# Altium schematic symbol library HJ_AD_SchLib.SchLib: 600 symbols (part 1 of 2)
Pins are listed as number, name and electrical type; pins without a type are passive.

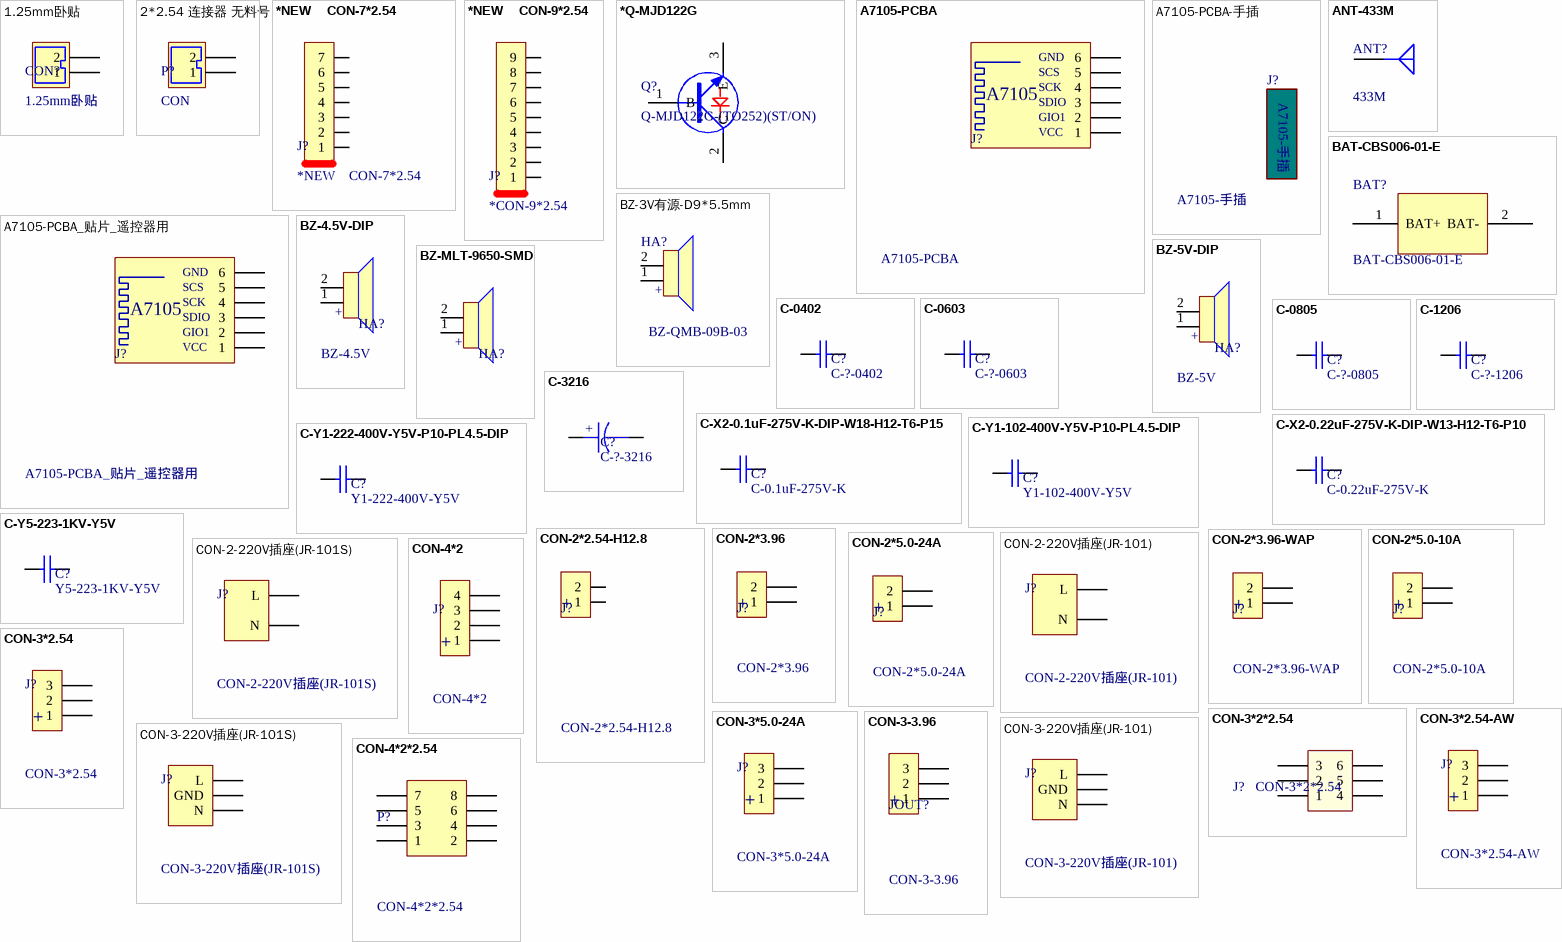
[diagram p0: symbols 1.25mm卧贴 to CON-4*2*2.54]

## 1.25mm卧贴
designator CON?
footprint 1.25MM-2P-SMT
pins: 1, 2

## 2*2.54 连接器 无料号
designator P?, comment CON
footprint CON-2*2.54
pins: 1, 2

## *NEW    CON-7*2.54
designator J?
CON-7*2.54
footprint *CON-7*2.54
pins: 1, 2, 3, 4, 5, 6, 7

## *NEW    CON-9*2.54
designator J?, comment *CON-9*2.54
CON-9*2.54
footprint *CON-9*2.54
pins: 1, 2, 3, 4, 5, 6, 7, 8, 9

## *Q-MJD122G
designator Q?, comment Q-MJD122G-(TO252)(ST/ON)
12142012: Q-MJD122G-(TO252)(ST/ON)
footprint TO252
pins: 1 B, 2 C, 3 E

## A7105-PCBA
designator J?
footprint 7105-SMD
pins: 1, 2, 3, 4, 5, 6
text: GND; SCS; SCK; A7105; SDIO; GIO1; VCC

## A7105-PCBA-手插
designator J?, comment A7105-手插
footprint A7105-PCBA-手插

## A7105-PCBA_贴片_遥控器用
designator J?
footprint 7105-2*6-SMD
pins: 1, 2, 3, 4, 5, 6
text: GND; SCS; SCK; A7105; SDIO; GIO1; VCC

## ANT-433M
designator ANT?, comment 433M
footprint ANT-433M
pins: 1

## BAT-CBS006-01-E
designator BAT?
footprint BAT-CBS006-01-E
pins: 1 BAT+, 2 BAT-

## BZ-3V有源-D9*5.5mm
designator HA?, comment BZ-QMB-09B-03
BZ-3V有源-D9*5.5mm
footprint FMQ-P4
pins: 1 + "RST", 2 + "RST"

## BZ-4.5V-DIP
designator HA?, comment BZ-4.5V
BE-4.5V-DIP
footprint FMQ-P1.9
pins: 1 + "RST", 2 + "RST"

## BZ-5V-DIP
designator HA?, comment BZ-5V
BE-5V-DIP
footprint FMQ-P7.5
pins: 1 + "RST", 2 + "RST"

## BZ-MLT-9650-SMD
designator HA?
footprint FMQ-9650-SMD
pins: 1 + "RST", 2 + "RST"

## C-0402
designator C?, comment C-?-0402
C-?-K-0402
footprint 0402C
pins: 1, 2

## C-0603
designator C?, comment C-?-0603
C-?-K-0603
footprint 0603C
pins: 1, 2

## C-0805
designator C?, comment C-?-0805
C-?-K-0805
footprint 0805C
pins: 1, 2

## C-1206
designator C?, comment C-?-1206
C-?-K-1206
footprint 1206C
pins: 1, 2

## C-3216
designator C?, comment C-?-3216
C-?-?V-3216
footprint 3216C
pins: 1, 2
text: +

## C-X2-0.1uF-275V-K-DIP-W18-H12-T6-P15
designator C?, comment C-0.1uF-275V-K
footprint C-X2-W18H12T6-P15
pins: 1, 2

## C-X2-0.22uF-275V-K-DIP-W13-H12-T6-P10
designator C?, comment C-0.22uF-275V-K
footprint C-X2-W13H12T6-P10
pins: 1, 2

## C-Y1-102-400V-Y5V-P10-PL4.5-DIP
designator C?, comment Y1-102-400V-Y5V
footprint C-Y1-P7.5-PL4.5-DIP
pins: 1, 2

## C-Y1-222-400V-Y5V-P10-PL4.5-DIP
designator C?, comment Y1-222-400V-Y5V
footprint C-Y1-P10-PL4.5-DIP
pins: 1, 2

## C-Y5-223-1KV-Y5V
designator C?, comment Y5-223-1KV-Y5V
P7.5
footprint C-P7.5
pins: 1, 2

## CON-2*2.54-H12.8
designator J?
footprint PH-2*2.54
pins: 1, 2
text: +

## CON-2*3.96
designator J?
J-3.96-2A
footprint CON-2*3.96
pins: 1, 2
text: +

## CON-2*3.96-WAP
designator J?
卧式
footprint CON-2*3.96-WAP
pins: 1, 2
text: +

## CON-2*5.0-10A
designator J?
J-5.0
footprint CON-2*5.0-WAP
pins: 1, 2
text: +

## CON-2*5.0-24A
designator J?
J-5.0
footprint CON-2*5.0
pins: 1, 2
text: +

## CON-2-220V插座(JR-101)
designator J?
footprint CON-2-220V插座(JR-101)
pins: 1 L, 2 N

## CON-2-220V插座(JR-101S)
designator J?
footprint CON-2-220V插座(JR-101S)
pins: 1 L, 2 N

## CON-3*2*2.54
designator J?
DIP
footprint PH-3*2*2.54 (Footprint not found)
pins: 1, 2, 3, 4, 5, 6

## CON-3*2.54
designator J?
footprint PH-3*2.54 (Footprint not found)
pins: 1, 2, 3
text: +

## CON-3*2.54-AW
designator J?
DIP(卧式弯针)
footprint PH-3*2.54-AW (Footprint not found)
pins: 1, 2, 3
text: +

## CON-3*5.0-24A
designator J?
J-5.0
footprint CON-3*5.0
pins: 1, 2, 3
text: +

## CON-3-3.96
designator JOUT?
footprint CON-3*3.96
pins: 1, 2, 3
text: +

## CON-3-220V插座(JR-101)
designator J?
footprint CON-3-220V插座(JR-101)
pins: 1 L, 2 N, 3 GND

## CON-3-220V插座(JR-101S)
designator J?
footprint CON-3-220V插座(JR-101S)
pins: 1 L, 2 N, 3 GND

## CON-4*2
designator J?
footprint PH-4*2.0
pins: 1, 2, 3, 4
text: +

## CON-4*2*2.54
designator P?
footprint CON-4*2*2.54 (Footprint not found)
pins: 1, 2, 3, 4, 5, 6, 7, 8

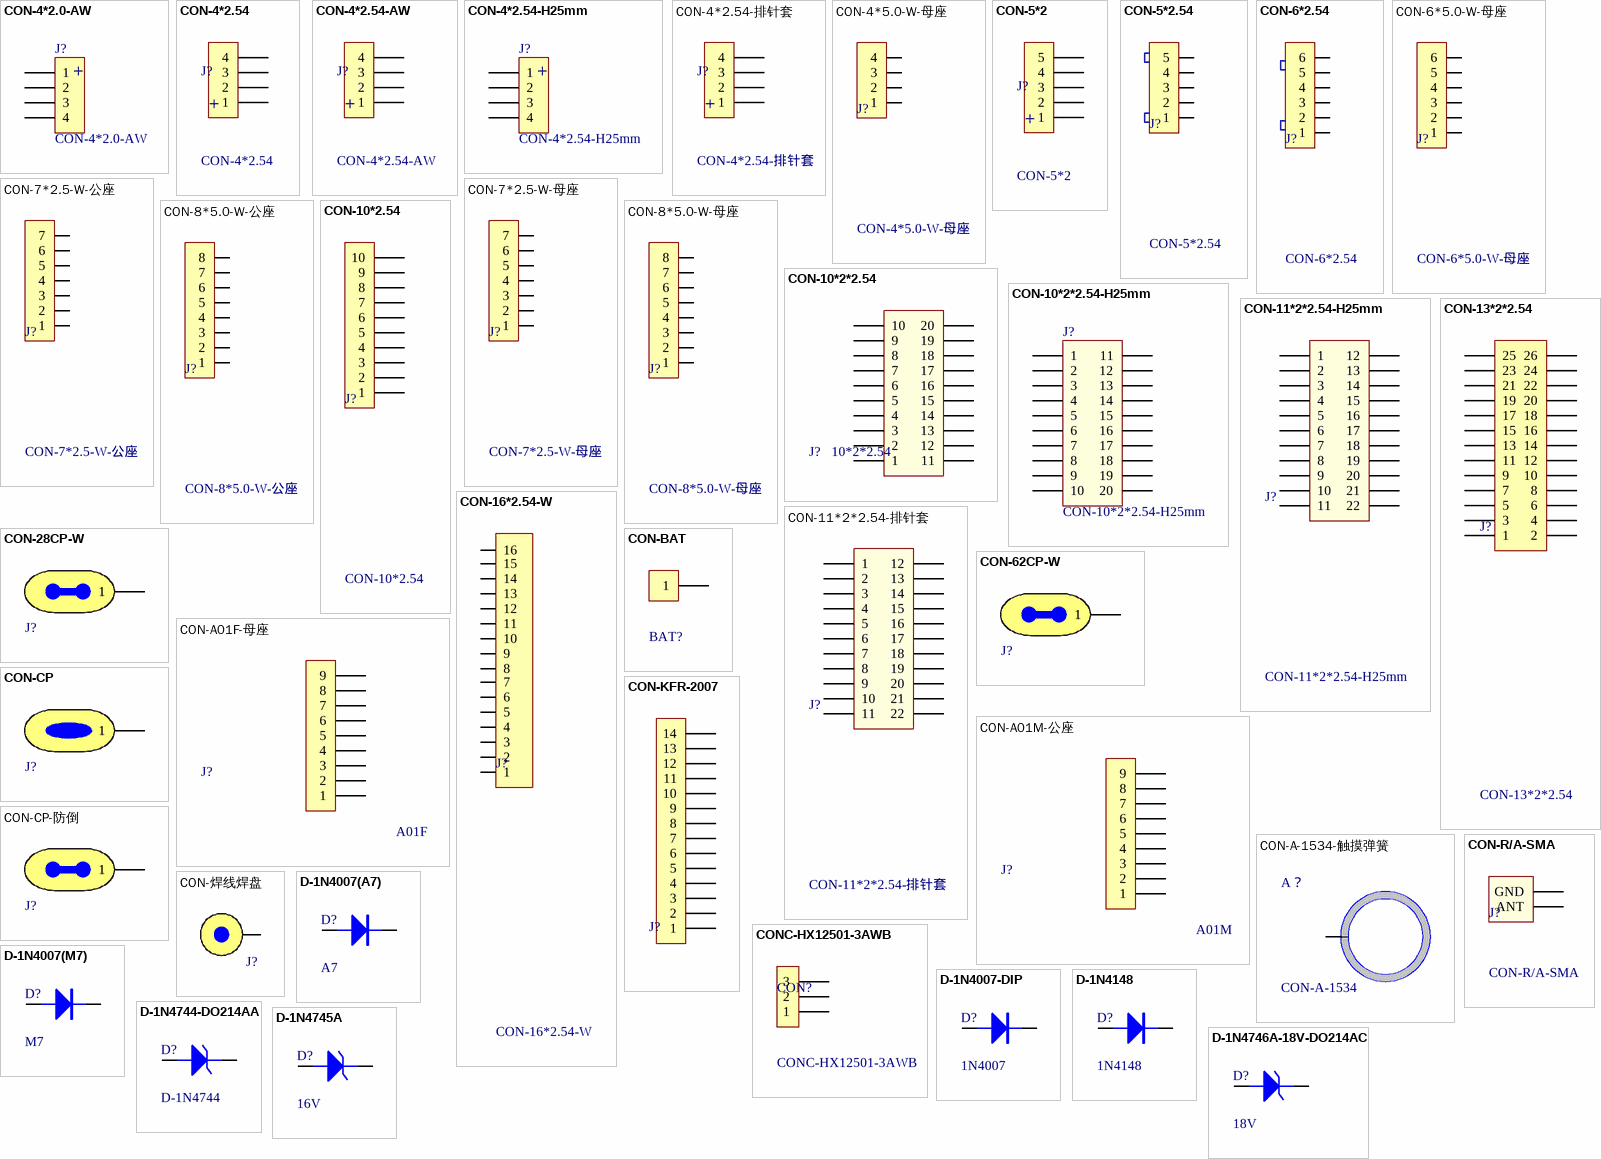
[diagram p1: symbols CON-4*2.0-AW to D-1N4746A-18V-DO214AC]

## CON-4*2.0-AW
designator J?
footprint PH-4*2.0-AW
pins: 1, 2, 3, 4
text: +

## CON-4*2.54
designator J?
footprint PH-4*2.54
pins: 1, 2, 3, 4
text: +

## CON-4*2.54-AW
designator J?
DIP(卧式弯针)
footprint PH-4*2.54-AW (Footprint not found)
pins: 1, 2, 3, 4
text: +

## CON-4*2.54-H25mm
designator J?
footprint PH-4*2.54-H25mm
pins: 1, 2, 3, 4
text: +

## CON-4*2.54-排针套
designator J?
footprint PH-4*2.54-排针套
pins: 1, 2, 3, 4
text: +

## CON-4*5.0-W-母座
designator J?
DIP卧式
footprint CON-4*5.0-W-母座
pins: 1, 2, 3, 4

## CON-5*2
designator J?
footprint PH-5*2.0 (Footprint not found)
pins: 1, 2, 3, 4, 5
text: +

## CON-5*2.54
designator J?
footprint CON-5*2.54
pins: 1, 2, 3, 4, 5

## CON-6*2.54
designator J?
footprint PH-6*2.54
pins: 1, 2, 3, 4, 5, 6

## CON-6*5.0-W-母座
designator J?
DIP卧式
footprint CON-6*5.0-W-母座
pins: 1, 2, 3, 4, 5, 6

## CON-7*2.5-W-公座
designator J?
DIP卧式
footprint CON-7*2.5-W-公座
pins: 1, 2, 3, 4, 5, 6, 7

## CON-7*2.5-W-母座
designator J?
DIP卧式
footprint CON-7*2.5-AW-母座
pins: 1, 2, 3, 4, 5, 6, 7

## CON-8*5.0-W-公座
designator J?
DIP卧式
footprint CON-8*5.0-W-公座
pins: 1, 2, 3, 4, 5, 6, 7, 8

## CON-8*5.0-W-母座
designator J?
DIP卧式
footprint CON-8*5.0-W-母座
pins: 1, 2, 3, 4, 5, 6, 7, 8

## CON-10*2*2.54
designator J?, comment 10*2*2.54
DIP
footprint PH-10*2*2.54
pins: 1, 2, 3, 4, 5, 6, 7, 8, 9, 10, 11, 12, 13, 14, 15, 16, 17, 18, 19, 20

## CON-10*2*2.54-H25mm
designator J?
footprint PH-11*2*2.54
pins: 1, 2, 3, 4, 5, 6, 7, 8, 9, 10, 11, 12, 13, 14, 15, 16, 17, 18, 19, 20

## CON-10*2.54
designator J?
footprint CON-10*2.54 (Footprint not found)
pins: 1, 2, 3, 4, 5, 6, 7, 8, 9, 10

## CON-11*2*2.54-H25mm
designator J?
footprint PH-11*2*2.54
pins: 1, 2, 3, 4, 5, 6, 7, 8, 9, 10, 11, 12, 13, 14, 15, 16, 17, 18, 19, 20, 21, 22

## CON-11*2*2.54-排针套
designator J?
footprint PH-11*2*2.54-排针套
pins: 1, 2, 3, 4, 5, 6, 7, 8, 9, 10, 11, 12, 13, 14, 15, 16, 17, 18, 19, 20, 21, 22

## CON-13*2*2.54
designator J?
footprint LCD-SY26
pins: 1, 2, 3, 4, 5, 6, 7, 8, 9, 10, 11, 12, 13, 14, 15, 16, 17, 18, 19, 20, 21, 22, 23, 24, 25, 26

## CON-16*2.54-W
designator J?
footprint CON-16*2.54-W
pins: 1, 2, 3, 4, 5, 6, 7, 8, 9, 10, 11, 12, 13, 14, 15, 16

## CON-28CP-W
designator J?, comment J-插片-卧式  (value not drawn)
footprint CON-28CP-W (Footprint not found)
pins: 1

## CON-62CP-W
designator J?, comment J-插片-卧式  (value not drawn)
footprint CON-62CP-W
pins: 1

## CON-A01F-母座
designator J?, comment A01F
DIP-母座
footprint CON-A01F-母座 (Footprint not found)
pins: 1, 2, 3, 4, 5, 6, 7, 8, 9

## CON-A01M-公座
designator J?, comment A01M
DIP-公座
footprint CON-A01M-公座 (Footprint not found)
pins: 1, 2, 3, 4, 5, 6, 7, 8, 9

## CON-A-1534-触摸弹簧
designator A？, comment CON-A-1534
footprint CON-A-1534 (Footprint not found)
pins: 1

## CON-BAT
designator BAT?
footprint CON-CP-BAT
pins: 1

## CON-CP
designator J?, comment J-2.8*0.8mm-1A  (value not drawn)
footprint CON-CP
pins: 1

## CON-CP-防倒
designator J?, comment J-2.8*0.8mm-1A  (value not drawn)
footprint CON-CP-防倒 (Footprint not found)
pins: 1

## CON-KFR-2007
designator J?
footprint CON-KFR-20007
pins: 1, 2, 3, 4, 5, 6, 7, 8, 9, 10, 11, 12, 13, 14

## CON-R/A-SMA
designator J?
SMA
footprint CON-R/A-SMA
pins: 1 ANT, 2 GND

## CON-焊线焊盘
designator J?  (value not drawn)
footprint 焊线焊盘-孔移位
footprint 焊线焊盘
pins: 1

## CONC-HX12501-3AWB
designator CON?
53261/1.25卧贴
footprint CONC-HX12501-3AWB (53261/1.25卧贴)
pins: 1, 2, 3

## D-1N4007(A7)
designator D?, comment A7
footprint D-SOD123
pins: 1 A, 2 K

## D-1N4007(M7)
designator D?, comment M7
footprint D-DO214AC
pins: 1 A, 2 K

## D-1N4007-DIP
designator D?, comment 1N4007
footprint D-P10
pins: 1 A, 2 K

## D-1N4148
designator D?, comment 1N4148
footprint D-SOD80
pins: 1 A, 2 K

## D-1N4744-DO214AA
designator D?, comment D-1N4744
footprint D-DO214AA
pins: 1 A, 2 K

## D-1N4745A
designator D?, comment 16V
DO214AC
footprint D-DO214AC
pins: 1 A, 2 K

## D-1N4746A-18V-DO214AC
designator D?, comment 18V
DO214AC
footprint D-DO214AC
pins: 1 A, 2 K

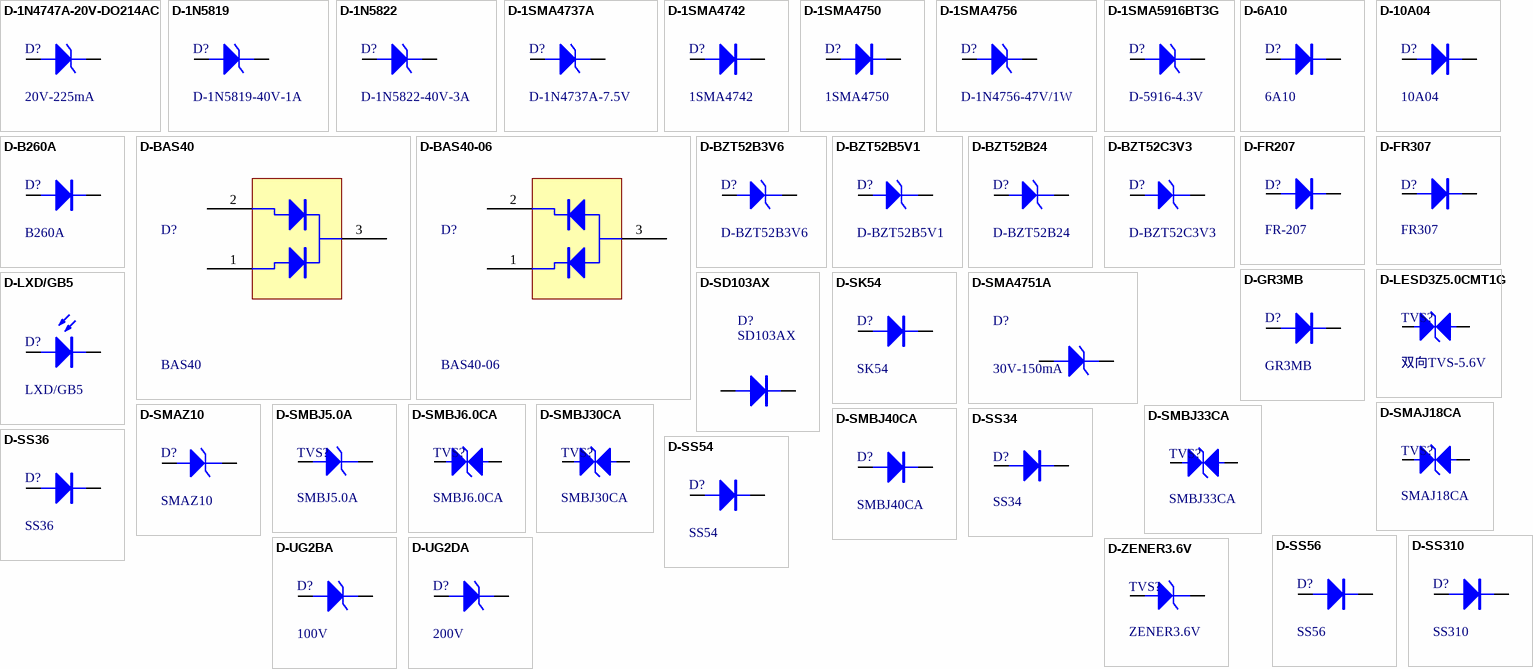
[diagram p2: symbols D-1N4747A-20V-DO214AC to D-ZENER3.6V]

## D-1N4747A-20V-DO214AC
designator D?, comment 20V-225mA
DO214AC
footprint D-DO214AC
pins: 1 A, 2 K

## D-1N5819
designator D?, comment D-1N5819-40V-1A
DO214AC
footprint D-DO214AC
pins: 1 A, 2 K

## D-1N5822
designator D?, comment D-1N5822-40V-3A
DO214AC
footprint D-DO214AC
pins: 1 A, 2 K

## D-1SMA4737A
designator D?, comment D-1N4737A-7.5V
footprint D-DO214AC
pins: 1 A, 2 K

## D-1SMA4742
designator D?, comment 1SMA4742
footprint D-DO214AC
pins: 1 A, 2 K

## D-1SMA4750
designator D?, comment 1SMA4750
footprint D-DO214AC
pins: 1 A, 2 K

## D-1SMA4756
designator D?, comment D-1N4756-47V/1W
DO214AC
footprint D-DO214AC
pins: 1 A, 2 K

## D-1SMA5916BT3G
designator D?, comment D-5916-4.3V
DO214AC
footprint D-DO214AC
pins: 1 A, 2 K

## D-6A10
designator D?, comment 6A10
D-6A10-DIP
footprint D-6A10-P17.78
pins: 1 A, 2 K

## D-10A04
designator D?, comment 10A04
D-10A04-DIP
footprint D-10A04-P17.78
pins: 1 A, 2 K

## D-B260A
designator D?, comment B260A
D-DO214AC
footprint D-DO214AC
pins: 1 A, 2 K

## D-BAS40
designator D?, comment BAS40
footprint SOT23-3
pins: 1, 2, 3

## D-BAS40-06
designator D?, comment BAS40-06
footprint SOT23-3
pins: 1, 2, 3

## D-BZT52B3V6
designator D?
SOD123
footprint D-SOD123
pins: 1 A, 2 K

## D-BZT52B5V1
designator D?
SOD123
footprint D-SOD123
pins: 1 A, 2 K

## D-BZT52B24
designator D?
SOD123
footprint D-SOD123
pins: 1 A, 2 K

## D-BZT52C3V3
designator D?
SOD123
footprint D-SOD123
pins: 1 A, 2 K

## D-FR207
designator D?, comment FR-207
D-FR207-DIP
footprint D-P12.7
pins: 1 A, 2 K

## D-FR307
designator D?, comment FR307
footprint D-DO201AD
pins: 1 A, 2 K

## D-GR3MB
designator D?, comment GR3MB
footprint D-DO214AA
pins: 1 A, 2 K

## D-LESD3Z5.0CMT1G
designator TVS?, comment 双向TVS-5.6V
SOD323
footprint D-SOD323
pins: 1 A, 2 K

## D-LXD/GB5
designator D?, comment LXD/GB5
footprint RL-P2.54
pins: 1 A, 2 K

## D-SD103AX
designator D?, comment SD103AX
SOD523
footprint D-SOD523
pins: 1 A, 2 K

## D-SK54
designator D?, comment SK54
footprint D-DO214AB
pins: 1 A, 2 K

## D-SMA4751A
designator D?, comment 30V-150mA
DO214AC
footprint D-DO214AC
pins: 1 A, 2 K

## D-SMAJ18CA
designator TVS?, comment SMAJ18CA
DO214AC
footprint D-DO214AC
pins: 1 A, 2 K

## D-SMAZ10
designator D?, comment SMAZ10
DO214AC
footprint D-DO214AC
pins: 1 A, 2 K

## D-SMBJ5.0A
designator TVS?, comment SMBJ5.0A
DO214AA
footprint D-DO214AA
pins: 1 A, 2 K

## D-SMBJ6.0CA
designator TVS?, comment SMBJ6.0CA
DO241AA
footprint D-DO214AA
pins: 1 A, 2 K

## D-SMBJ30CA
designator TVS?, comment SMBJ30CA
DO214AA
footprint D-DO214AA
pins: 1 A, 2 K

## D-SMBJ33CA
designator TVS?, comment SMBJ33CA
DO214AA
footprint D-DO214AA
pins: 1 A, 2 K

## D-SMBJ40CA
designator D?, comment SMBJ40CA
DO214AA
footprint D-DO214AA
pins: 1 A, 2 K

## D-SS34
designator D?, comment SS34
D-SS34-DO214AC
footprint D-DO214AC
pins: 1 A, 2 K

## D-SS36
designator D?, comment SS36
footprint D-DO214AC
pins: 1 A, 2 K

## D-SS54
designator D?, comment SS54
footprint D-DO214AC
pins: 1 A, 2 K

## D-SS56
designator D?, comment SS56
DO214AA
footprint D-DO214AA
pins: 1 A, 2 K

## D-SS310
designator D?, comment SS310
DO214AC
footprint D-DO214AC
pins: 1 A, 2 K

## D-UG2BA
designator D?, comment 100V
DO214AC
footprint D-DO214AC
pins: 1 A, 2 K

## D-UG2DA
designator D?, comment 200V
DO214AC
footprint D-DO214AC
pins: 1 A, 2 K

## D-ZENER3.6V
designator TVS?, comment ZENER3.6V
D-ZENER3.6V-SMD
footprint D-DO214AC
pins: 1 A, 2 K

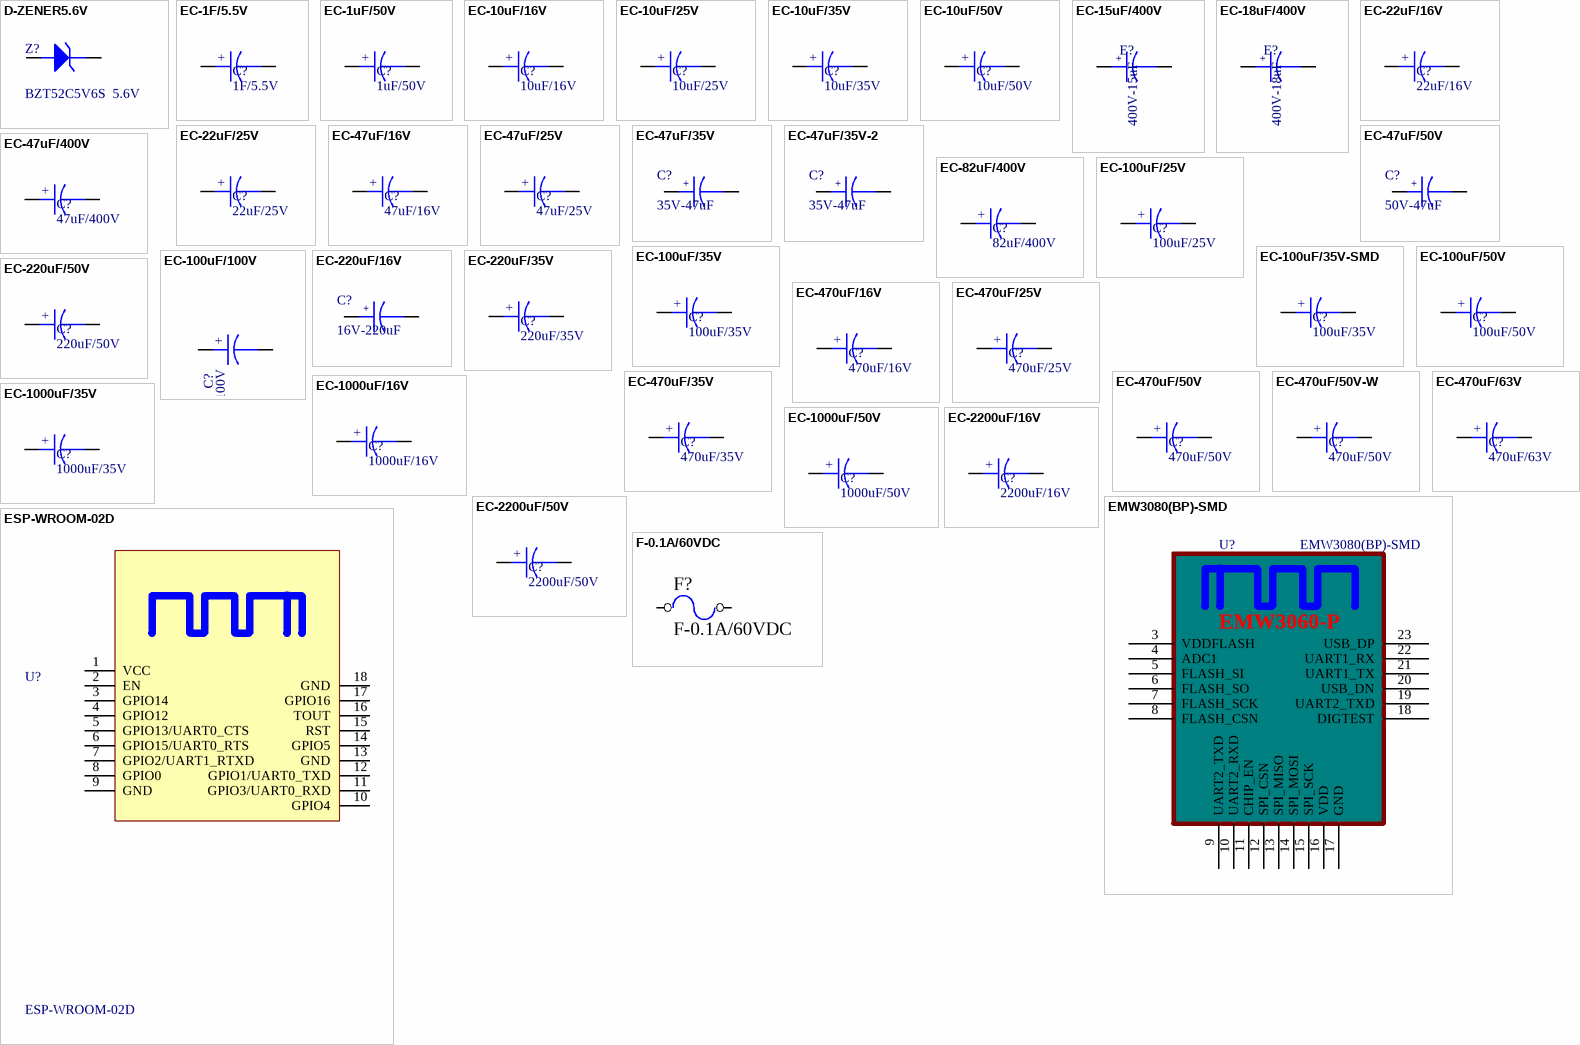
[diagram p3: symbols D-ZENER5.6V to F-0.1A/60VDC]

## D-ZENER5.6V
designator Z?, comment BZT52C5V6S  5.6V
D-BZT52C5V6S-SMD
footprint D-SOD323
pins: 1 A, 2 K

## EC-1F/5.5V
designator C?, comment 1F/5.5V
footprint EC-L17.5M9.5H18
pins: 1, 2
text: +

## EC-1uF/50V
designator C?, comment 1uF/50V
footprint EC-P2.0D5H11
pins: 1, 2
text: +

## EC-10uF/16V
designator C?, comment 10uF/16V
footprint EC-P2.0D5H11
pins: 1, 2
text: +

## EC-10uF/25V
designator C?, comment 10uF/25V
footprint EC-P2.0D5H11
pins: 1, 2
text: +

## EC-10uF/35V
designator C?, comment 10uF/35V
footprint EC-P2.0D5H11
pins: 1, 2
text: +

## EC-10uF/50V
designator C?, comment 10uF/50V
footprint EC-P2.0D5H11
pins: 1, 2
text: +

## EC-15uF/400V
designator E?, comment 400V-15uF
10*17-P5.0
footprint EC-P5D10H16
pins: 1, 2
text: +

## EC-18uF/400V
designator E?, comment 400V-18uF
10*20-P5.0
footprint EC-P5D10H20
footprint EC-P5D10H20-W
pins: 1, 2
text: +

## EC-22uF/16V
designator C?, comment 22uF/16V
footprint EC-P2.0D5H11
pins: 1, 2
text: +

## EC-22uF/25V
designator C?, comment 22uF/25V
footprint EC-P2.0D5H11
pins: 1, 2
text: +

## EC-47uF/16V
designator C?, comment 47uF/16V
footprint EC-P2.0D5H11
pins: 1, 2
text: +

## EC-47uF/25V
designator C?, comment 47uF/25V
footprint EC-6.3*6.3-SMD
footprint EC-P2.0D5H11
pins: 1, 2
text: +

## EC-47uF/35V
designator C?, comment 35V-47uF
5*11-P2.0
footprint EC-P2.0D5H11
pins: 1, 2
text: +

## EC-47uF/35V-2
designator C?, comment 35V-47uF
5*9-P2.0
footprint EC-P2.0D5H9
pins: 1, 2
text: +

## EC-47uF/50V
designator C?, comment 50V-47uF
6.3*11-P2.5
footprint EC-P2.5D6.3H11
pins: 1, 2
text: +

## EC-47uF/400V
designator C?, comment 47uF/400V
footprint EC-P7.5D16H26-W
pins: 1, 2
text: +

## EC-82uF/400V
designator C?, comment 82uF/400V
footprint EC-P7.5D18H25-W
pins: 1, 2
text: +

## EC-100uF/25V
designator C?, comment 100uF/25V
footprint EC-P2.5D5H7
pins: 1, 2
text: +

## EC-100uF/35V
designator C?, comment 100uF/35V
footprint EC-P2.54D6.5H12
pins: 1, 2
text: +

## EC-100uF/35V-SMD
designator C?, comment 100uF/35V
SMD
footprint EC-6.3*6.3-SMD
pins: 1, 2
text: +

## EC-100uF/50V
designator C?, comment 100uF/50V
footprint EC-P5D8H16
pins: 1, 2
text: +

## EC-100uF/100V
designator C?, comment 100uF/100V
footprint EC-P5D10H16
pins: 1, 2
text: +

## EC-220uF/16V
designator C?, comment 16V-220uF
6.3*11-P2.5
footprint EC-P2.5D6.3H11
pins: 1, 2
text: +

## EC-220uF/35V
designator C?, comment 220uF/35V
footprint EC-P5D8H16
pins: 1, 2
text: +

## EC-220uF/50V
designator C?, comment 220uF/50V
footprint EC-P5D10H16
pins: 1, 2
text: +

## EC-470uF/16V
designator C?, comment 470uF/16V
footprint EC-P2.5D8H13
pins: 1, 2
text: +

## EC-470uF/25V
designator C?, comment 470uF/25V
footprint EC-P3.5D8H12
pins: 1, 2
text: +

## EC-470uF/35V
designator C?, comment 470uF/35V
footprint EC-P5D10H16
pins: 1, 2
text: +

## EC-470uF/50V
designator C?, comment 470uF/50V
footprint EC-P5D10H20
pins: 1, 2
text: +

## EC-470uF/50V-W
designator C?, comment 470uF/50V
footprint EC-P5D10H18-W
pins: 1, 2
text: +

## EC-470uF/63V
designator C?, comment 470uF/63V
footprint EC-P5D13H20
pins: 1, 2
text: +

## EC-1000uF/16V
designator C?, comment 1000uF/16V
footprint EC-P5D10H16
pins: 1, 2
text: +

## EC-1000uF/35V
designator C?, comment 1000uF/35V
footprint EC-P5D13H20
pins: 1, 2
text: +

## EC-1000uF/50V
designator C?, comment 1000uF/50V
footprint EC-P5D13H26
pins: 1, 2
text: +

## EC-2200uF/16V
designator C?, comment 2200uF/16V
footprint EC-P5D10H20
pins: 1, 2
text: +

## EC-2200uF/50V
designator C?, comment 2200uF/50V
footprint EC-P7.5D16H30-W
pins: 1, 2
text: +

## EMW3080(BP)-SMD
designator U?
footprint EMW3060-WIFI MODULE
footprint EMW3080(BP)-WIFI MODULE
pins: 3 VDDFLASH, 4 ADC1, 5 FLASH_SI, 6 FLASH_SO, 7 FLASH_SCK, 8 FLASH_CSN, 9 UART2_TXD, 10 UART2_RXD, 11 CHIP_EN, 12 SPI_CSN, 13 SPI_MISO, 14 SPI_MOSI, 15 SPI_SCK, 16 VDD, 17 GND, 18 DIGTEST, 19 UART2_TXD, 20 USB_DN, 21 UART1_TX, 22 UART1_RX, 23 USB_DP
text: EMW3060-P

## ESP-WROOM-02D
designator U?
footprint ESP-WROOM-02D (Footprint not found)
pins: 1 VCC, 2 EN, 3 GPIO14, 4 GPIO12, 5 GPIO13/UART0_CTS, 6 GPIO15/UART0_RTS, 7 GPIO2/UART1_RTXD, 8 GPIO0, 9 GND, 10 GPIO4, 11 GPIO3/UART0_RXD, 12 GPIO1/UART0_TXD, 13 GND, 14 GPIO5, 15 RST, 16 TOUT, 17 GPIO16, 18 GND

## F-0.1A/60VDC
designator F?
SMD1206
footprint 1206R
pins: 1, 2

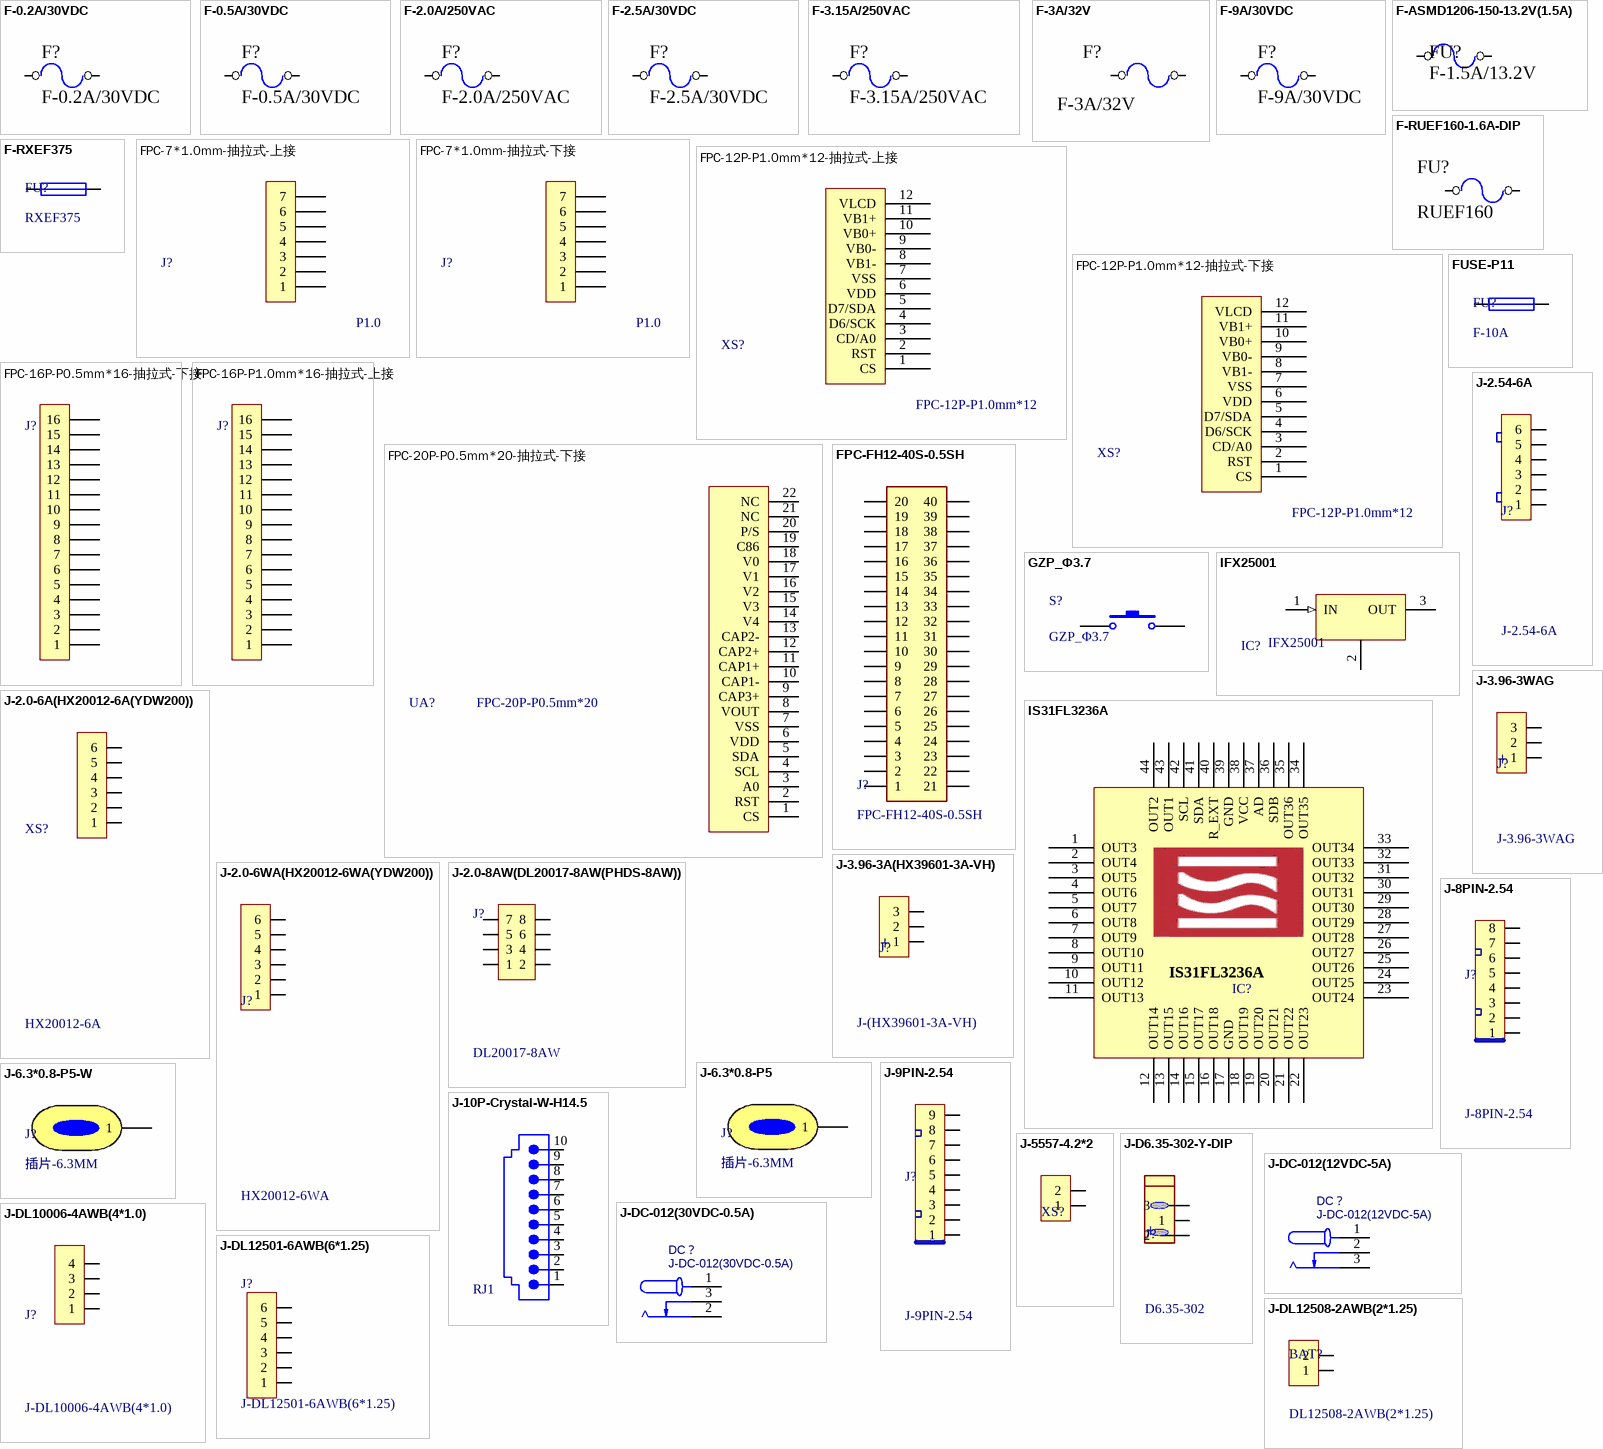
[diagram p4: symbols F-0.2A/30VDC to J-DL12508-2AWB(2*1.25)]

## F-0.2A/30VDC
designator F?
SMD1206
footprint 1206R
pins: 1, 2

## F-0.5A/30VDC
designator F?
footprint FUSE-A30-050
pins: 1, 2

## F-2.0A/250VAC
designator F?
footprint FUSE-P5D8.5H8
pins: 1, 2

## F-2.5A/30VDC
designator F?
footprint FUSE-A30-250
pins: 1, 2

## F-3.15A/250VAC
designator F?
footprint FUSE-P5D8.5H8
pins: 1, 2

## F-3A/32V
designator F?
footprint 1206R
pins: 1, 2

## F-9A/30VDC
designator F?
P10.27
footprint FUSE-Z-P10.27
pins: 1, 2

## F-ASMD1206-150-13.2V(1.5A)
designator FU?, comment F-1.5A/13.2V
footprint 1206F
pins: 1, 2

## F-RUEF160-1.6A-DIP
designator FU?, comment RUEF160
footprint 自恢复保险丝0.5A-卧式
footprint 自恢复保险丝0.5A-立式
pins: 1, 2

## F-RXEF375
designator FU?, comment RXEF375
FUSE-P11
footprint FUSE-P10
pins: 1, 2

## FPC-7*1.0mm-抽拉式-上接
designator J?, comment P1.0
抽拉式-上接-SMD
footprint FPC-P1.0*7-抽拉式-上接
pins: 1, 2, 3, 4, 5, 6, 7

## FPC-7*1.0mm-抽拉式-下接
designator J?, comment P1.0
抽拉式-下接-SMD
footprint FPC-P1.0*7-抽拉式-下接
pins: 1, 2, 3, 4, 5, 6, 7

## FPC-12P-P1.0mm*12-抽拉式-上接
designator XS?, comment FPC-12P-P1.0mm*12
footprint FPC-12P-P1.0mm*12-抽拉式-下接
pins: 1 CS, 2 RST, 3 CD/A0, 4 D6/SCK, 5 D7/SDA, 6 VDD, 7 VSS, 8 VB1-, 9 VB0-, 10 VB0+, 11 VB1+, 12 VLCD

## FPC-12P-P1.0mm*12-抽拉式-下接
designator XS?, comment FPC-12P-P1.0mm*12
footprint FPC-12P-P1.0mm*12-抽拉式-下接
pins: 1 CS, 2 RST, 3 CD/A0, 4 D6/SCK, 5 D7/SDA, 6 VDD, 7 VSS, 8 VB1-, 9 VB0-, 10 VB0+, 11 VB1+, 12 VLCD

## FPC-16P-P0.5mm*16-抽拉式-下接
designator J?, comment FPC-16P-P0.5mm*16  (value not drawn)
footprint FPC-P0.5*16
pins: 1, 2, 3, 4, 5, 6, 7, 8, 9, 10, 11, 12, 13, 14, 15, 16

## FPC-16P-P1.0mm*16-抽拉式-上接
designator J?, comment FPC-16P-P1.0mm*16  (value not drawn)
footprint FPC-16P-P1.0mm*16-抽拉式-上接
pins: 1, 2, 3, 4, 5, 6, 7, 8, 9, 10, 11, 12, 13, 14, 15, 16

## FPC-20P-P0.5mm*20-抽拉式-下接
designator UA?, comment FPC-20P-P0.5mm*20
footprint FPC-P0.5*20
pins: 1 CS, 2 RST, 3 A0, 4 SCL, 5 SDA, 6 VDD, 7 VSS, 8 VOUT, 9 CAP3+, 10 CAP1-, 11 CAP1+, 12 CAP2+, 13 CAP2-, 14 V4, 15 V3, 16 V2, 17 V1, 18 V0, 19 C86, 20 P/S, 21 NC, 22 NC

## FPC-FH12-40S-0.5SH
designator J?
footprint FPC-P0.5*40
pins: 1, 2, 3, 4, 5, 6, 7, 8, 9, 10, 11, 12, 13, 14, 15, 16, 17, 18, 19, 20, 21, 22, 23, 24, 25, 26, 27, 28, 29, 30, 31, 32, 33, 34, 35, 36, 37, 38, 39, 40

## FUSE-P11
designator FU?, comment F-10A
FUSE-P11
footprint FUSE-Z-P10.27
pins: 1, 2

## GZP_Φ3.7
designator S?
footprint XGZP (Footprint not found)
pins: 1, 2

## IFX25001
designator IC?
footprint T0-263-7812
pins: 1 IN (in), 2 GND, 3 OUT (power)

## IS31FL3236A
designator IC?  (value not drawn)
footprint F-44
pins: 1 OUT3 (power), 2 OUT4, 3 OUT5, 4 OUT6, 5 OUT7, 6 OUT8, 7 OUT9, 8 OUT10, 9 OUT11, 10 OUT12, 11 OUT13, 12 OUT14, 13 OUT15, 14 OUT16, 15 OUT17, 16 OUT18, 17 GND, 18 OUT19, 19 OUT20, 20 OUT21, 21 OUT22, 22 OUT23, 23 OUT24, 24 OUT25, 25 OUT26, 26 OUT27, 27 OUT28, 28 OUT29, 29 OUT30, 30 OUT31, 31 OUT32, 32 OUT33, 33 OUT34, 34 OUT35, 35 OUT36, 36 SDB, 37 AD, 38 VCC, 39 GND, 40 R_EXT, 41 SDA, 42 SCL, 43 OUT1, 44 OUT2

## J-2.0-6A(HX20012-6A(YDW200))
designator XS?, comment HX20012-6A
footprint HX20012-6A(YDW200)
pins: 1, 2, 3, 4, 5, 6

## J-2.0-6WA(HX20012-6WA(YDW200))
designator J?, comment HX20012-6WA
footprint HX20012-6WA(YDAW200)
pins: 1, 2, 3, 4, 5, 6

## J-2.0-8AW(DL20017-8AW(PHDS-8AW))
designator J?, comment DL20017-8AW
footprint J-DL20017-8AW(2*4*2.0)
pins: 1, 2, 3, 4, 5, 6, 7, 8

## J-2.54-6A
designator J?
footprint CON-6*2.54
pins: 1, 2, 3, 4, 5, 6

## J-3.96-3A(HX39601-3A-VH)
designator J?, comment J-(HX39601-3A-VH)
footprint HX39601-3A(VH)
pins: 1, 2, 3
text: +

## J-3.96-3WAG
designator J?
footprint CON-3*3.96-W
pins: 1, 2, 3
text: +

## J-6.3*0.8-P5
designator J?, comment 插片-6.3MM
187插片-6.3MM
footprint 6.3mm插片
pins: 1

## J-6.3*0.8-P5-W
designator J?, comment 插片-6.3MM
187插片-6.3MM-卧式
footprint 6.3mm插片-W (187卧式)
pins: 1

## J-8PIN-2.54
designator J?
footprint CON-8*2.54
pins: 1, 2, 3, 4, 5, 6, 7, 8

## J-9PIN-2.54
designator J?
footprint CON-9*2.54-WL
pins: 1, 2, 3, 4, 5, 6, 7, 8, 9

## J-10P-Crystal-W-H14.5
designator RJ1, comment 10P-Crystal-W-H14.5  (value not drawn)
footprint RJ11-10P10C-W
pins: 1, 2, 3, 4, 5, 6, 7, 8, 9, 10

## J-5557-4.2*2
designator XS?
footprint SOCKET-P4.2-W
pins: 1, 2

## J-D6.35-302-Y-DIP
designator J?, comment D6.35-302
footprint J-D6.35-302-Y-DIP
pins: 1, 2, 3
text: +

## J-DC-012(12VDC-5A)
designator DC？
footprint J-DC-012(12VDC-5A)-9*11*14
pins: 1, 2, 3

## J-DC-012(30VDC-0.5A)
designator DC？
footprint J-DC-012(30VDC-0.5A)-9*11*13.4
pins: 1, 2, 3

## J-DL10006-4AWB(4*1.0)
designator J?
footprint J-DL10006-4AWB(4*1.0)
pins: 1, 2, 3, 4

## J-DL12501-6AWB(6*1.25)
designator J?
footprint J-DL12501-6AWB(6*1.25)
pins: 1, 2, 3, 4, 5, 6

## J-DL12508-2AWB(2*1.25)
designator BAT?, comment DL12508-2AWB(2*1.25)
footprint J-DL12508-2AWB(2*1.25)
pins: 1, 2

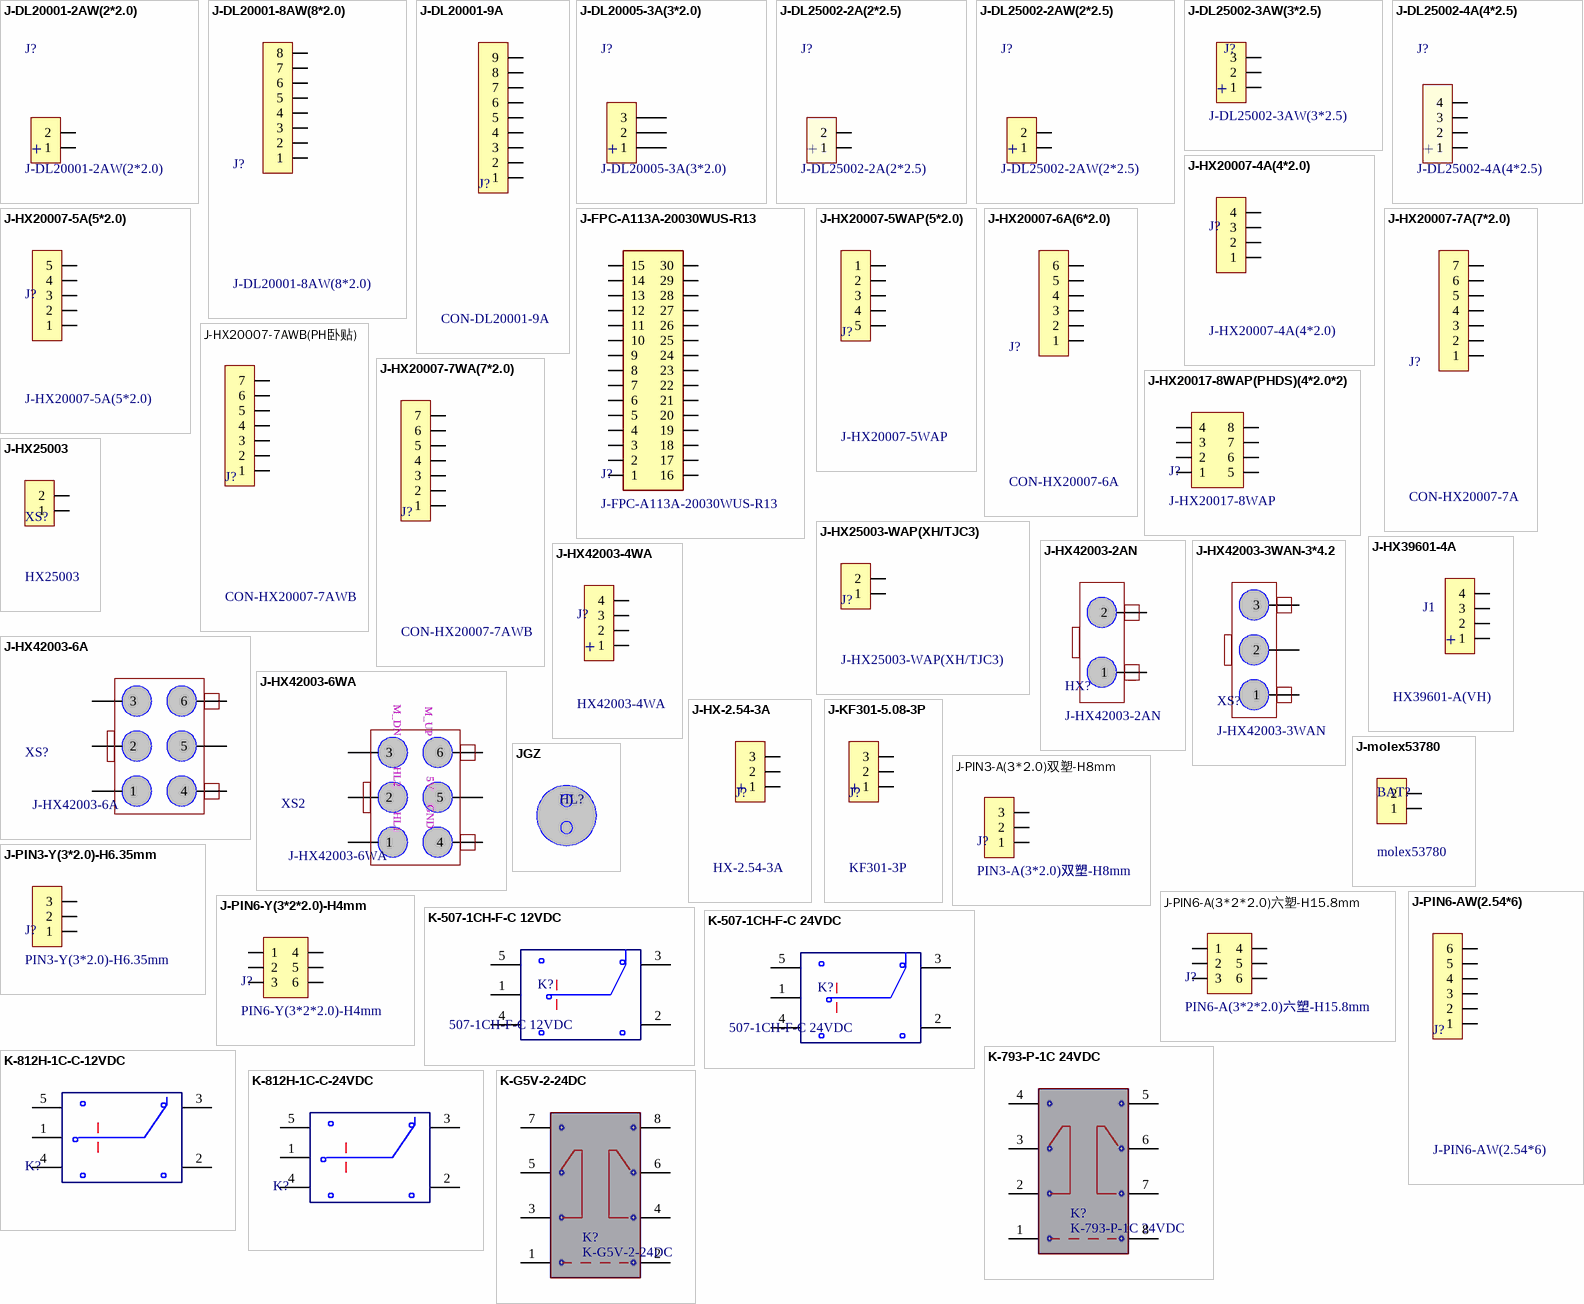
[diagram p5: symbols J-DL20001-2AW(2*2.0) to K-G5V-2-24DC]

## J-DL20001-2AW(2*2.0)
designator J?
footprint J-DL20001-2AW(2*2.0)
pins: 1, 2
text: +

## J-DL20001-8AW(8*2.0)
designator J?
footprint J-DL20001-8AW(8*2.0)
pins: 1, 2, 3, 4, 5, 6, 7, 8

## J-DL20001-9A
designator J?, comment CON-DL20001-9A
footprint J-DL20001-9A(9*2.0) (Footprint not found)
pins: 1, 2, 3, 4, 5, 6, 7, 8, 9

## J-DL20005-3A(3*2.0)
designator J?
footprint J-DL20005-3A(3*2.0)
pins: 1, 2, 3
text: +

## J-DL25002-2A(2*2.5)
designator J?
footprint J-DL25002-2A(2*2.5)
pins: 1, 2
text: +

## J-DL25002-2AW(2*2.5)
designator J?
footprint J-DL25002-2AW(2*2.5)
pins: 1, 2
text: +

## J-DL25002-3AW(3*2.5)
designator J?
CompNAME: 2P直插卧式插座; $MaterialClass: Component; $MaterialID: 12032086; CompCLASSIFICATION: ;电子元器件; Comp_Spec: J-DL25002-2AW-P2.54; CompID: 12032086
footprint J-DL25002-3AW(3*2.5)
pins: 1, 2, 3
text: +

## J-DL25002-4A(4*2.5)
designator J?
footprint J-DL25002-4A(4*2.5)
pins: 1, 2, 3, 4
text: +

## J-FPC-A113A-20030WUS-R13
designator J?
footprint J-FPC-30P-W (Footprint not found)
pins: 1, 2, 3, 4, 5, 6, 7, 8, 9, 10, 11, 12, 13, 14, 15, 16, 17, 18, 19, 20, 21, 22, 23, 24, 25, 26, 27, 28, 29, 30

## J-HX20007-4A(4*2.0)
designator J?
footprint J-HX20007-4A(4*2.0)
pins: 1, 2, 3, 4

## J-HX20007-5A(5*2.0)
designator J?
footprint J-HX20007-5A(5*2.0) (Footprint not found)
pins: 1, 2, 3, 4, 5

## J-HX20007-5WAP(5*2.0)
designator J?, comment J-HX20007-5WAP
footprint J-HX20007-5WAP(5*2.0)
pins: 1, 2, 3, 4, 5

## J-HX20007-6A(6*2.0)
designator J?, comment CON-HX20007-6A
footprint J-HX20007-6A(6*2.0)
pins: 1, 2, 3, 4, 5, 6

## J-HX20007-7A(7*2.0)
designator J?, comment CON-HX20007-7A
footprint J-HX20007-7A(7*2.0)
pins: 1, 2, 3, 4, 5, 6, 7

## J-HX20007-7AWB(PH卧贴)
designator J?, comment CON-HX20007-7AWB
footprint SOT223
pins: 1, 2, 3, 4, 5, 6, 7

## J-HX20007-7WA(7*2.0)
designator J?, comment CON-HX20007-7AWB
DIP-7*2.0卧式
footprint J-HX20007-7WA(7*2.0)
pins: 1, 2, 3, 4, 5, 6, 7

## J-HX20017-8WAP(PHDS)(4*2.0*2)
designator J?, comment J-HX20017-8WAP
footprint HX20017-8WAP
pins: 1, 2, 3, 4, 5, 6, 7, 8

## J-HX25003
designator XS?, comment HX25003
footprint CON-2*2.54
pins: 1, 2

## J-HX25003-WAP(XH/TJC3)
designator J?
footprint CON-2*2.54-WS
pins: 1, 2

## J-HX39601-4A
designator J1, comment HX39601-A(VH)
footprint HX39601-A(VH)
pins: 1, 2, 3, 4
text: +

## J-HX42003-2AN
designator HX?
footprint HX42003-2AN
pins: 1, 2

## J-HX42003-3WAN-3*4.2
designator XS?, comment J-HX42003-3WAN
footprint HX42003-3WAN
pins: 1, 2, 3

## J-HX42003-4WA
designator J?, comment HX42003-4WA
footprint HX42003-4WA
pins: 1, 2, 3, 4
text: +

## J-HX42003-6A
designator XS?
2037008: J-HX42003-6WAG-3*4.2*2
footprint HX42003-6A
pins: 1, 2, 3, 4, 5, 6

## J-HX42003-6WA
designator XS2
2037008: J-HX42003-6WAG-3*4.2*2
footprint HX42003-6WA
pins: 1, 2, 3, 4, 5, 6
text: M_DN; M_UP; HL2; 5V; GND; HL1

## J-HX-2.54-3A
designator J?, comment HX-2.54-3A
footprint CON-3*2.54
pins: 1, 2, 3
text: +

## J-KF301-5.08-3P
designator J?, comment KF301-3P
footprint KF301-3P
pins: 1, 2, 3
text: +

## J-molex53780
designator BAT?, comment molex53780
footprint molex53780
pins: 1, 2

## J-PIN3-A(3*2.0)双塑-H8mm
designator J?, comment PIN3-A(3*2.0)双塑-H8mm
footprint CON-3*2.0(双塑)-H8mm
pins: 1, 2, 3

## J-PIN3-Y(3*2.0)-H6.35mm
designator J?, comment PIN3-Y(3*2.0)-H6.35mm
footprint CON-3Y(3*2.0)-H6.35mm
pins: 1, 2, 3

## J-PIN6-A(3*2*2.0)六塑-H15.8mm
designator J?, comment PIN6-A(3*2*2.0)六塑-H15.8mm
footprint CON-3*2*2.0(六塑)-H15.8mm
pins: 1, 2, 3, 4, 5, 6

## J-PIN6-AW(2.54*6)
designator J?
footprint CON-6*2.54
pins: 1, 2, 3, 4, 5, 6

## J-PIN6-Y(3*2*2.0)-H4mm
designator J?, comment PIN6-Y(3*2*2.0)-H4mm
footprint CON-6Y(3*2*2.0)-H4mm
pins: 1, 2, 3, 4, 5, 6

## JGZ
designator HL?
footprint JGZ

## K-507-1CH-F-C 12VDC
designator K?, comment 507-1CH-F-C 12VDC
footprint K-507-1CH-F-C 12VDC
pins: 1 C5, 2 IN1, 3 IN2, 4 IN4, 5 IN3

## K-507-1CH-F-C 24VDC
designator K?, comment 507-1CH-F-C 24VDC
footprint K-507-1CH-F-C 24VDC
pins: 1 C5, 2 IN1, 3 IN2, 4 IN4, 5 IN3

## K-793-P-1C 24VDC
designator K?
footprint K-507-1CH-F-C 24VDC
pins: 1, 2, 3, 4, 5, 6, 7, 8

## K-812H-1C-C-12VDC
designator K?
footprint K-812H
pins: 1 C5, 2 IN1, 3 IN2, 4 IN4, 5 IN3

## K-812H-1C-C-24VDC
designator K?
footprint K-812H
pins: 1 C5, 2 IN1, 3 IN2, 4 IN4, 5 IN3

## K-G5V-2-24DC
designator K?
footprint K-507-1CH-F-C 24VDC
pins: 1 C5, 2 IN1, 3 IN2, 4 IN4, 5 IN3, 6 IN4, 7 IN5, 8 IN6

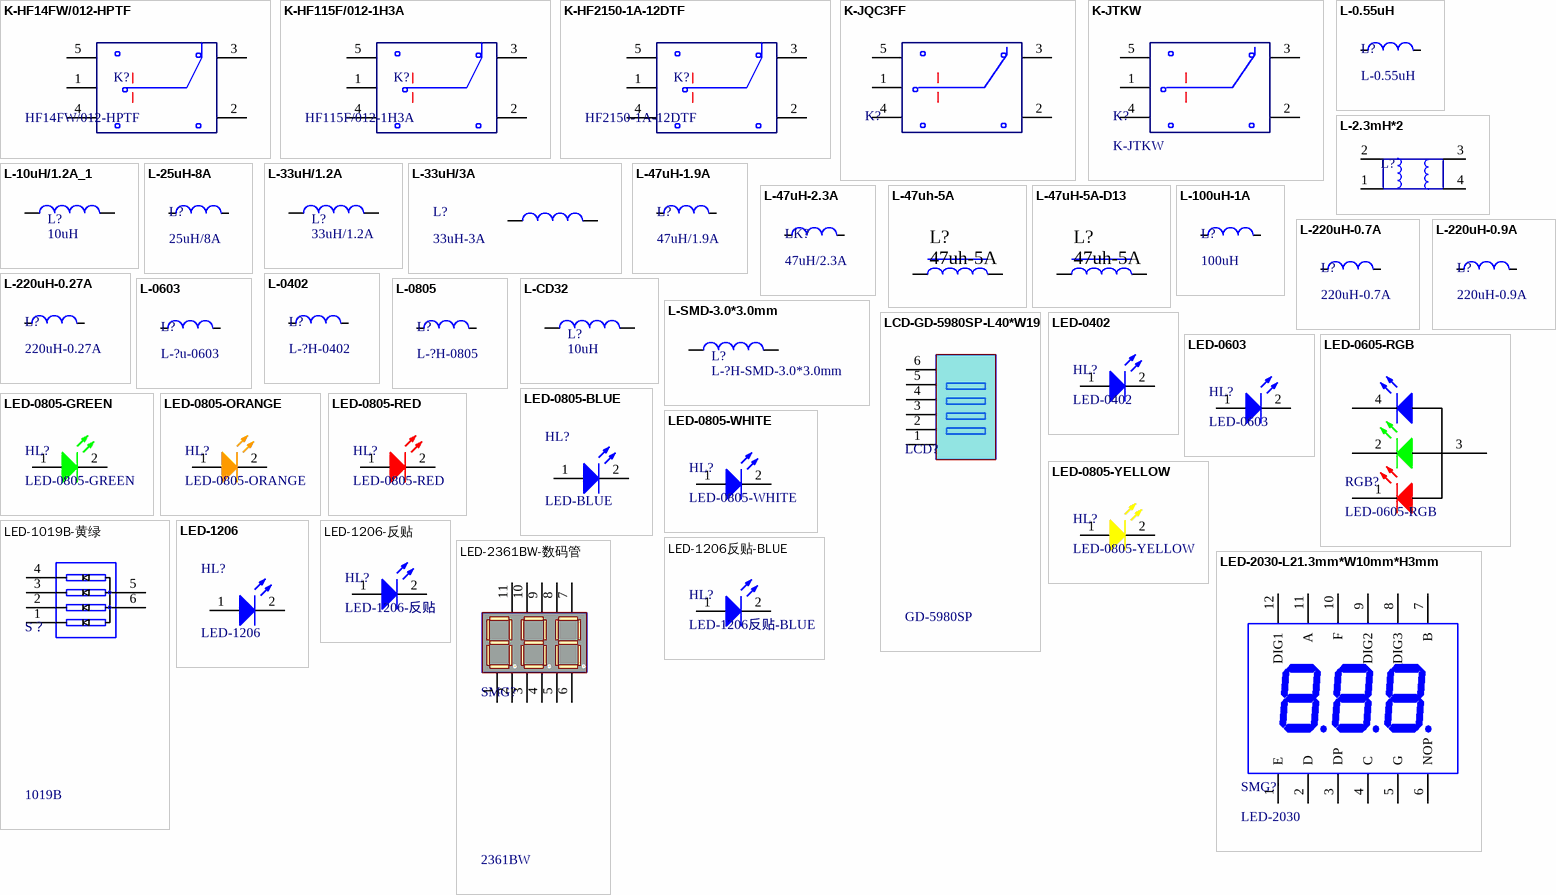
[diagram p6: symbols K-HF14FW/012-HPTF to LED-2361BW-数码管]

## K-HF14FW/012-HPTF
designator K?, comment HF14FW/012-HPTF
12VDC
footprint K-HF14FW/012-HPTF
pins: 1 C5, 2 IN1, 3 IN2, 4 IN4, 5 IN3

## K-HF115F/012-1H3A
designator K?, comment HF115F/012-1H3A
12VDC
footprint K-HF115F/012-1H3A (Footprint not found)
pins: 1 C5, 2 IN1, 3 IN2, 4 IN4, 5 IN3

## K-HF2150-1A-12DTF
designator K?, comment HF2150-1A-12DTF
12VDC
footprint K-HF2150-1A-12DTF
pins: 1 C5, 2 IN1, 3 IN2, 4 IN4, 5 IN3

## K-JQC3FF
designator K?
footprint K-3FF
pins: 1 C5, 2 IN1, 3 IN2, 4 IN4, 5 IN3

## K-JTKW
designator K?
footprint K-JTKW
pins: 1 C5, 2 IN1, 3 IN2, 4 IN4, 5 IN3

## L-0.55uH
designator L?
Φ3.5-H4.7
footprint R-AXIAL0.4
pins: 1, 2

## L-2.3mH*2
designator L?
footprint L-P9*2
pins: 1, 2, 3, 4

## L-10uH/1.2A_1
designator L?, comment 10uH
footprint L-SCD4030
pins: 1, 2

## L-25uH-8A
designator L?, comment 25uH/8A
footprint L-25uH-8A
pins: 1, 2

## L-33uH/1.2A
designator L?, comment 33uH/1.2A
SCDS127T-330M-1.2A
footprint L-MS127
pins: 1, 2

## L-33uH/3A
designator L?, comment 33uH-3A
MWSA1004S-330MT-SMD
footprint L-MWSA1004S (SMD-10*11.5mm)
pins: 1, 2

## L-47uH-1.9A
designator L?, comment 47uH/1.9A
SMD-10.3*10.4*4
footprint L-SMDRH10
pins: 1, 2

## L-47uH-2.3A
designator LK?, comment 47uH/2.3A
L-47uH-2.3A-RB.2/.4
footprint L-P5.5/D11
pins: 1, 2

## L-47uh-5A
designator L?, comment 47uh-5A
footprint L-P7D17T7
pins: 1, 2

## L-47uH-5A-D13
designator L?, comment 47uh-5A
footprint L-47uH-5A-D13
pins: 1, 2

## L-100uH-1A
designator L?, comment 100uH
L-100uH-1A-K-RB.2/.4（塑封）
footprint L-P5D8.5
pins: 1, 2

## L-220uH-0.7A
designator L?, comment 220uH-0.7A
SMD-6*6*4.5
footprint L-SMD-6.0*6.0*4.5MM
pins: 1, 2

## L-220uH-0.9A
designator L?, comment 220uH-0.9A
SMD-8*8*4
footprint L-SMD-8.0*8.0*4.0MM
pins: 1, 2

## L-220uH-0.27A
designator L?, comment 220uH-0.27A
SMD-CD43
footprint L-CD43
pins: 1, 2

## L-0402
designator L?, comment L-?H-0402
L-?H-K-0402
footprint 0402L
pins: 1, 2

## L-0603
designator L?, comment L-?u-0603
L-?H-K-0603
footprint 0603L
pins: 1, 2

## L-0805
designator L?, comment L-?H-0805
L-?H-K-0805
footprint 0805L
pins: 1, 2

## L-CD32
designator L?, comment 10uH
footprint L-SCD0302
pins: 1, 2

## L-SMD-3.0*3.0mm
designator L?, comment L-?H-SMD-3.0*3.0mm
footprint L-SMD-3.0*3.0mm
pins: 1, 2

## LCD-GD-5980SP-L40*W19
designator LCD?, comment GD-5980SP
footprint LCD-GD-5980SP-L40*W19
pins: 1 A1, 2 A2, 3 A3, 4 A4, 5 A5, 6 A6

## LED-0402
designator HL?
footprint LED-0402
pins: 1 A, 2 K

## LED-0603
designator HL?
footprint LED-0603-G
pins: 1 A, 2 K

## LED-0605-RGB
designator RGB?
CB-1615QRGBC-P6
footprint LED-0605-RGB
pins: 1 R, 2 G, 3 VCC, 4 B

## LED-0805-BLUE
designator HL?, comment LED-BLUE
LED-0805-BLUE
footprint LED-0805-G
pins: 1 A, 2 K

## LED-0805-GREEN
designator HL?
footprint LED-0805-G
pins: 1 A, 2 K

## LED-0805-ORANGE
designator HL?
footprint LED-0805-G
pins: 1 A, 2 K

## LED-0805-RED
designator HL?
footprint LED-0805-G
pins: 1 A, 2 K

## LED-0805-WHITE
designator HL?
footprint LED-0805-G
pins: 1 A, 2 K

## LED-0805-YELLOW
designator HL?
footprint LED-0805-G
pins: 1 A, 2 K

## LED-1019B-黄绿
designator S？, comment 1019B
footprint LED-DCXSP
pins: 1 A1, 2 A2, 3 A3, 4 A4, 5 A5, 6 A6

## LED-1206
designator HL?
footprint LED-1206-G
pins: 1 A, 2 K

## LED-1206-反贴
designator HL?
footprint LED-HD
pins: 1 A, 2 K

## LED-1206反贴-BLUE
designator HL?
footprint LED-HD-BLUE
pins: 1 A, 2 K

## LED-2030-L21.3mm*W10mm*H3mm
designator SMG?, comment LED-2030
LED-2030-SMD
footprint LED-2030 (L21.3mm*W10mm*H3mm)
pins: 1 E, 2 D, 3 DP, 4 C, 5 G, 6 NOP, 7 B, 8 DIG3, 9 DIG2, 10 F, 11 A, 12 DIG1

## LED-2361BW-数码管
designator SMG?, comment 2361BW
footprint LED-2361BW-DIP
pins: 1 C, 2 DIG1, 3 D, 4 DIG2, 5 DIG3, 6 DP, 7 B, 8 F, 9 A, 10 E, 11 G

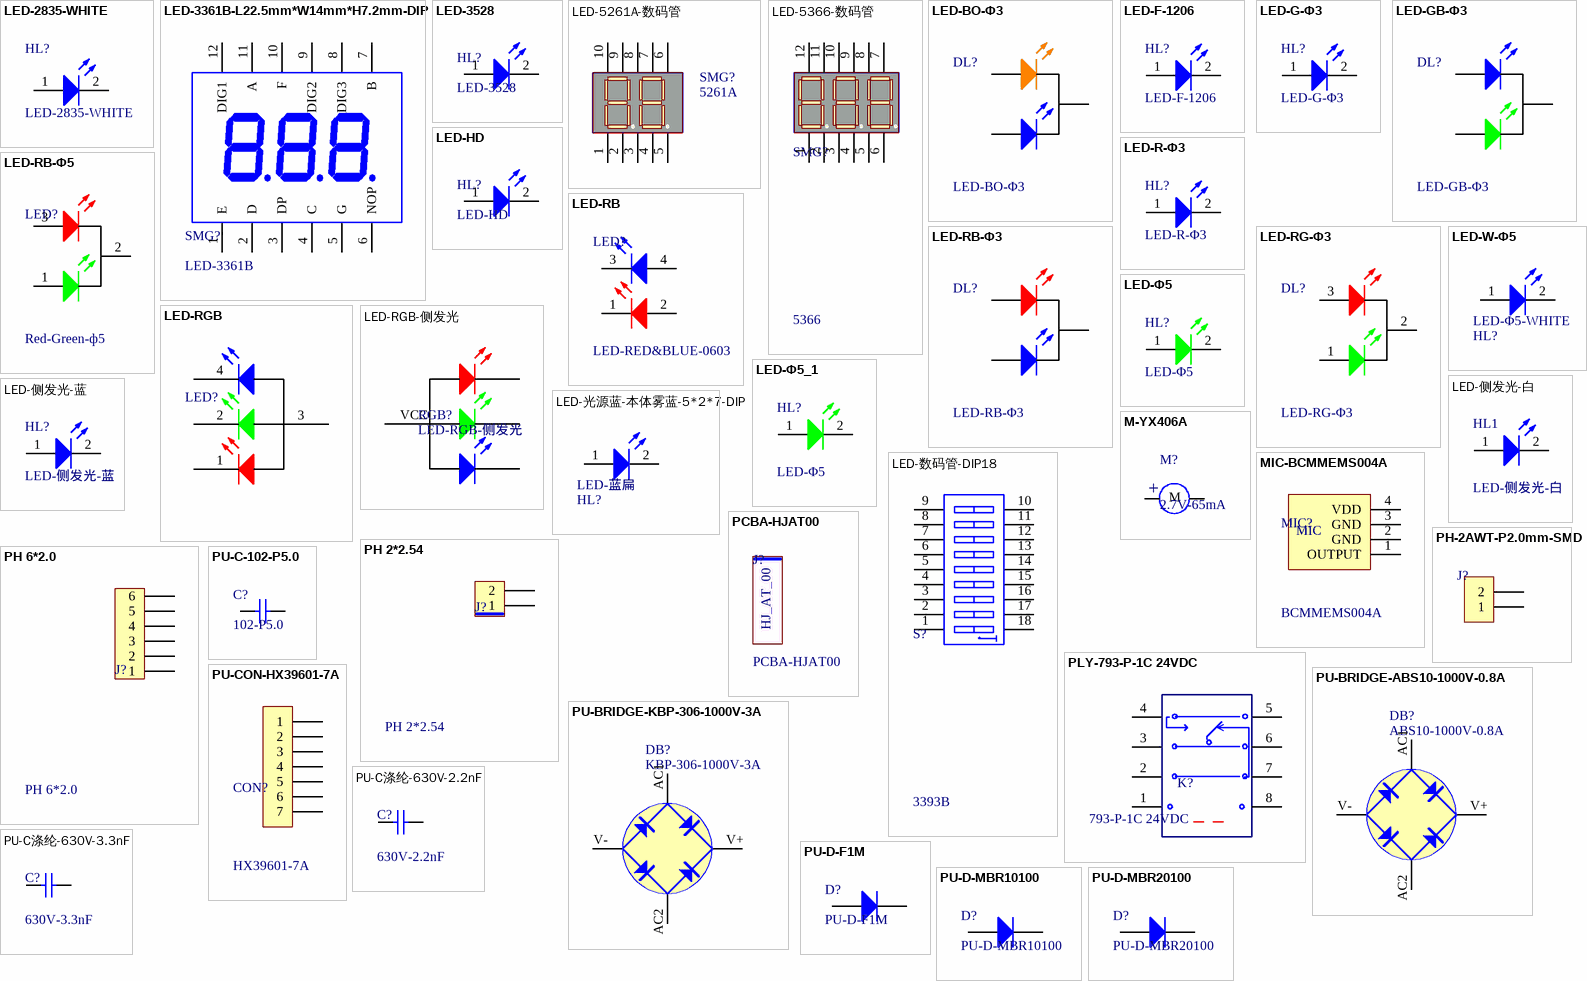
[diagram p7: symbols LED-2835-WHITE to PU-D-MBR20100]

## LED-2835-WHITE
designator HL?
LED-2835-WHITE-焊盘尺寸不一
footprint LED-2835-WHITE (LED-2835-WHITE-焊盘大小不一)
pins: 1 A, 2 K

## LED-3361B-L22.5mm*W14mm*H7.2mm-DIP
designator SMG?, comment LED-3361B
LED-3361B-共阳数码管
footprint LED-3361B-DIP
pins: 1 E, 2 D, 3 DP, 4 C, 5 G, 6 NOP, 7 B, 8 DIG3, 9 DIG2, 10 F, 11 A, 12 DIG1

## LED-3528
designator HL?
footprint LED-3528
pins: 1 A, 2 K

## LED-5261A-数码管
designator SMG?, comment 5261A
红色共阴极
footprint LED-5261A-RED
pins: 1 D, 2 DP, 3 E, 4 C, 5 DIG2, 6 B, 7 A, 8 F, 9 G, 10 DIG1

## LED-5366-数码管
designator SMG?, comment 5366
红色共阴极
footprint LED-5366-RED
pins: 1 E, 2 D, 3 DP, 4 C, 5 G, 6 NC, 7 B, 8 DIG3, 9 DIG2, 10 F, 11 A, 12 DIG1

## LED-BO-Φ3
designator DL?
footprint LED-D3-DC
pins: 1 A, 2 K, 3 A

## LED-F-1206
designator HL?
footprint LED-F-1206
pins: 1 A, 2 K

## LED-G-Φ3
designator HL?
LED-GREEN-Φ3
footprint LED-P2.5D3-G
pins: 1 A, 2 K

## LED-GB-Φ3
designator DL?
footprint LED-D3-DC
pins: 1 A, 2 K, 3 A

## LED-HD
designator HL?
footprint LED-HD
pins: 1 A, 2 K

## LED-R-Φ3
designator HL?
footprint LED-P2.5D3-G
pins: 1 A, 2 K

## LED-RB
designator LED?, comment LED-RED&BLUE-0603
footprint LED-0603-RB
pins: 1 K, 2 A, 3 K, 4 A

## LED-RB-Φ3
designator DL?
footprint LED-D3-DC
pins: 1 A, 2 K, 3 A

## LED-RB-Φ5
designator LED?, comment Red-Green-ф5
LED-Red-Green-ф5
footprint LED-D5-DC
pins: 1 A, 2 K, 3 A

## LED-RG-Φ3
designator DL?
footprint LED-D3-DC
pins: 1 A, 2 K, 3 A

## LED-RGB
designator LED?
footprint LED-0605-RGB (Footprint not found)
pins: 1 R, 2 G, 3 VCC, 4 B

## LED-RGB-侧发光
designator RGB?
LED-侧发光-光源RGB-本体透明-1208
footprint LED-1208-RGB (Footprint not found)
pins: 1 VCC, 2, 3, 4

## LED-W-Φ5
designator HL?, comment LED-Φ5-WHITE
footprint LED-TORCH-D5
pins: 1 A, 2 K

## LED-Φ5
designator HL?
LED-GREEN-Φ3
footprint LED-D5
pins: 1 A, 2 K

## LED-Φ5_1
designator HL?, comment LED-Φ5
LED-GREEN-Φ3; CompNAME: 发光二极管-白光(草帽灯); $MaterialClass: Component; $MaterialID: 12093038; CompCLASSIFICATION: ;电子元器件; Comp_Spec: LED-φ5-光源白-本体透明-DIP(VF:2.6-3.2/Iv:300-800); CompID: 12093038
footprint LED-D5
pins: 1 A, 2 K

## LED-侧发光-白
designator HL1
footprint LED-侧发光-蓝
pins: 1 A, 2 K

## LED-侧发光-蓝
designator HL?
footprint LED-侧发光-蓝
pins: 1 A, 2 K

## LED-光源蓝-本体雾蓝-5*2*7-DIP
designator HL?, comment LED-蓝扁
footprint LED-5*2*7-DIP (Footprint not found)
pins: 1 A, 2 K

## LED-数码管-DIP18
designator S?, comment 3393B
footprint LED-3393B-DIP
pins: 1 A1, 2 A2, 3 A3, 4 A4, 5 A5, 6 A6, 7 A7, 8 A8, 9 A9, 10 B9, 11 B8, 12 B7, 13 B6, 14 B5, 15 B4, 16 B3, 17 B2, 18 B1

## M-YX406A
designator M?, comment 2.7V-65mA
SMD
footprint DM-YX406A
pins: 1 V+, 2 V-
text: +; M

## MIC-BCMMEMS004A
designator MIC?, comment BCMMEMS004A
footprint MIC-1.7*2.46
pins: 1 OUTPUT, 2 GND, 3 GND, 4 VDD
text: MIC

## PCBA-HJAT00
designator J?
footprint PCBA-HJTA00
text: HJ_AT_00

## PH 2*2.54
designator J?
J-PIN2-A(2.54*2)
footprint PH-2*2.54
pins: 1, 2

## PH 6*2.0
designator J?
footprint PH-6*2.0
pins: 1, 2, 3, 4, 5, 6

## PH-2AWT-P2.0mm-SMD
designator J?
footprint PH-2AWT-P2.0mm-SMD
pins: 1, 2

## PLY-793-P-1C 24VDC
designator K?, comment 793-P-1C 24VDC
footprint PLY-793-P-1C 24VDC
pins: 1 C5, 2 IN1, 3 IN2, 4 IN4, 5 IN3, 6 IN3, 7 IN3, 8 IN3

## PU-BRIDGE-ABS10-1000V-0.8A
designator DB?, comment ABS10-1000V-0.8A
BRIDGE
footprint PU-BRIDGE-ABS10 (1KV 0.8A)
pins: AC1 V+, AC2 V-, V+ +, V- -

## PU-BRIDGE-KBP-306-1000V-3A
designator DB?, comment KBP-306-1000V-3A
BRIDGE
footprint PU-BRIDGE-KBP306 (BRIDGE)
pins: AC1 V+, AC2 V-, V+ +, V- -

## PU-C-102-P5.0
designator C?, comment 102-P5.0
P5.0
footprint PU-CAPF-P5.0
pins: 1, 2

## PU-CON-HX39601-7A
designator CON?, comment HX39601-7A
3.96mm-立式
footprint PU-CON-HX39601-7A (3.96mm-立式)
pins: 1, 2, 3, 4, 5, 6, 7

## PU-C涤纶-630V-2.2nF
designator C?, comment 630V-2.2nF
P5.0
footprint PU-C涤纶-P5.0
pins: 1, 2

## PU-C涤纶-630V-3.3nF
designator C?, comment 630V-3.3nF
P5.0; Published: 8-Jun-2000; LatestRevisionDate: 17-Jul-2002; LatestRevisionNote: Re-released for DXP Platform.; PackageReference: RAD-0.3; Publisher: Altium Limited; PackageDescription: Radial Cap, Thru-Hole; 2 Leads; 0.3 in Pin Spacing
footprint PU-C涤纶-P5.0
pins: 1, 2

## PU-D-F1M
designator D?
SOD123
footprint PU-D-SOD123
pins: 1 A, 2 K

## PU-D-MBR10100
designator D?
TO220
footprint TO220
pins: 1 A, 2 K

## PU-D-MBR20100
designator D?
TO220
footprint TO220
pins: 1 A, 2 K

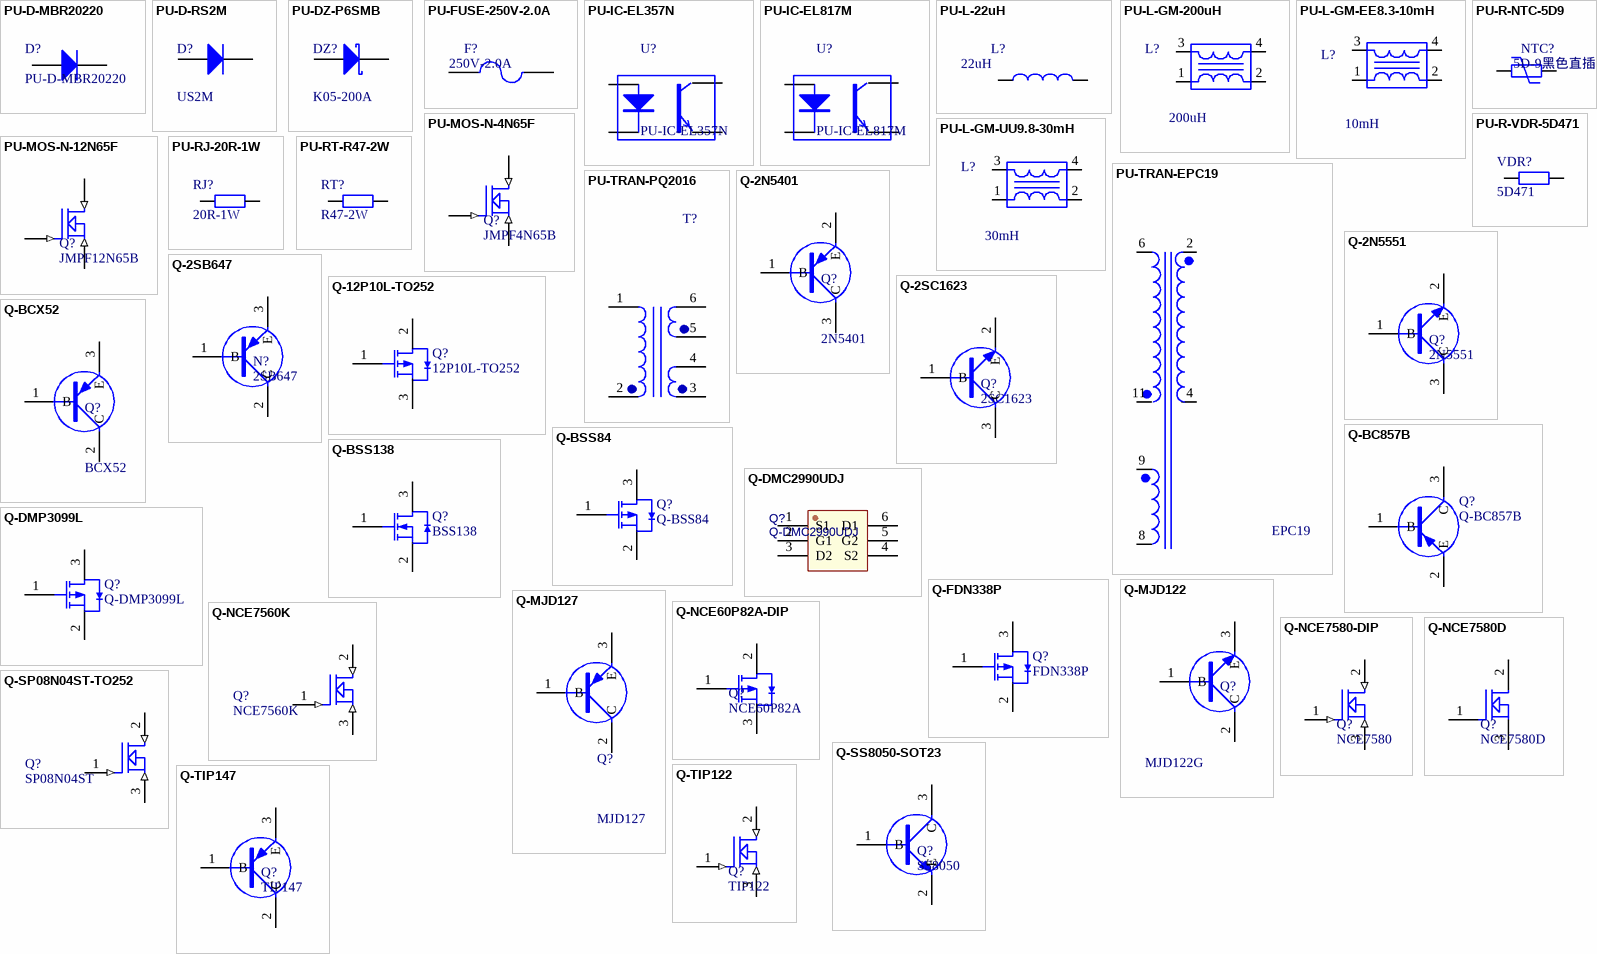
[diagram p8: symbols PU-D-MBR20220 to Q-TIP147]

## PU-D-MBR20220
designator D?
TO220
footprint TO220
pins: 1 A, 2 K

## PU-D-RS2M
designator D?, comment US2M
SMA; Published: 8-Jun-2000; LatestRevisionDate: 17-Jul-2002; LatestRevisionNote: Re-released for DXP Platform.; PackageVersion: Sep-1996; PackageReference: SMC; Publisher: Altium Limited; PackageDescription: DO-214-AB/SMC; 2 C-Bend Leads; Body 7.9 x 5.9 mm, inc. leads (LxW); Code_JEDEC: DO-214-AB
footprint PU-D-SMA
pins: 1 A, 2 K

## PU-DZ-P6SMB
designator DZ?, comment K05-200A
SMB; Published: 8-Jun-2000; LatestRevisionDate: 17-Jul-2002; LatestRevisionNote: Re-released for DXP Platform.; PackageReference: SMB; Publisher: Altium Limited; PackageDescription: DO-214-AA/SMB; 2 C-Bend Leads; Body 5.3 x 3.6 mm, inc. leads (LxW); Code_JEDEC: DO-214-AA
footprint PU-D-SMB
pins: 1 A, 2 K

## PU-FUSE-250V-2.0A
designator F?, comment 250V-2.0A
5.08mm-方形; Published: 8-Jun-2000; LatestRevisionDate: 17-Jul-2002; LatestRevisionNote: Re-released for DXP Platform.; PackageReference: PIN-W2/E2.8; Publisher: Altium Limited; PackageDescription: Thru-Hole; 2 Leads
simulation model FUSE (Spice Subcircuit)
footprint PU-FUSE-5.08mm-方形
pins: 1, 2

## PU-IC-EL357N
designator U?
EL357N
footprint PU-IC-EL357N (EL357N光耦)
pins: 1, 2, 3, 4

## PU-IC-EL817M
designator U?
EL817M
footprint PU-IC-EL817M (EL817M光耦)
pins: 1, 2, 3, 4

## PU-L-22uH
designator L?, comment 22uH
footprint PU-L-Ф8-P3.0
pins: 1, 2

## PU-L-GM-200uH
designator L?, comment 200uH
footprint PU-L-GM-5*5-200uH
pins: 1 (oe), 2 (oe), 3 (oe), 4 (oe)

## PU-L-GM-EE8.3-10mH
designator L?, comment 10mH
footprint PU-L-GM-EE8.3-10mH
pins: 1 (oe), 2 (oe), 3 (oe), 4 (oe)

## PU-L-GM-UU9.8-30mH
designator L?, comment 30mH
footprint PU-L-GM-UU9.8-30mH
pins: 1 (oe), 2 (oe), 3 (oe), 4 (oe)

## PU-MOS-N-4N65F
designator Q?, comment JMPF4N65B
TO220
footprint TO220
pins: 1 G (in), 2 D (in), 3 S (in)

## PU-MOS-N-12N65F
designator Q?, comment JMPF12N65B
TO220
footprint TO220
pins: 1 G (in), 2 D (in), 3 S (in)

## PU-R-NTC-5D9
designator NTC?, comment 5D-9黑色直插
P5.0
footprint PU-NTC-5D9
pins: 1, 2

## PU-R-VDR-5D471
designator VDR?, comment 5D471
P5.0
footprint PU-VDR-05K471B
pins: 1, 2

## PU-RJ-20R-1W
designator RJ?, comment 20R-1W
P5.0立式
footprint PU-RJ-1W-P5.0 (立式)
pins: 1, 2

## PU-RT-R47-2W
designator RT?, comment R47-2W
P5.0立式
footprint PU-RT-2W-P5.0 (立式)
pins: 1, 2

## PU-TRAN-EPC19
designator ?, comment EPC19
footprint PU-TARN-EPC19
pins: 2, 4, 6, 8, 9, 11

## PU-TRAN-PQ2016
designator T?
PQ2016
footprint PU-TRAN-PQ2016
pins: 1 L/N (oe), 2 L/N (oe), 3 O2 (oe), 4 O2 (oe), 5 O1 (oe), 6 O1 (oe)

## Q-2N5401
designator Q?, comment 2N5401
Q-2N5401-SOT23
footprint SOT23-3
pins: 1 B, 2 E, 3 C

## Q-2N5551
designator Q?, comment 2N5551
Q-2N5551-SOT23
footprint SOT23-3
pins: 1 B, 2 E, 3 C

## Q-2SB647
designator N?, comment 2SB647
PNP Transistor
footprint TO92
pins: 1 B, 2 C, 3 E

## Q-2SC1623
designator Q?, comment 2SC1623
SOT23
footprint SOT23-3
pins: 1 B, 2 E, 3 C

## Q-12P10L-TO252
designator Q?, comment 12P10L-TO252
footprint TO252
pins: 1 G, 2 D, 3 S

## Q-BC857B
designator Q?
SOT23
footprint SOT23-3
pins: 1 B, 2 E, 3 C

## Q-BCX52
designator Q?, comment BCX52
footprint SOT89-321
pins: 1 B, 2 C, 3 E

## Q-BSS84
designator Q?
SOT23
footprint SOT-23-MOS
pins: 1 G, 2 S, 3 D

## Q-BSS138
designator Q?, comment BSS138
SOT23-3
footprint SOT23-3
pins: 1 G, 2 S, 3 D

## Q-DMC2990UDJ
designator Q?
SOT963-6
footprint SOT-963-6
pins: 1 S1, 2 G1, 3 D2, 4 S2, 5 G2, 6 D1

## Q-DMP3099L
designator Q?
SOT23
footprint SOT-23-MOS
pins: 1 G, 2 S, 3 D

## Q-FDN338P
designator Q?, comment FDN338P
footprint SOT-23-MOS
pins: 1 G, 2 S, 3 D

## Q-MJD122
designator Q?, comment MJD122G
NPN Transistor
footprint TO252
pins: 1 B, 2 C, 3 E

## Q-MJD127
designator Q?, comment MJD127
PNP-DPAK
footprint DPAK
pins: 1 B, 2 C, 3 E

## Q-NCE60P82A-DIP
designator Q?, comment NCE60P82A
footprint TO220-3L
pins: 1 G, 2 D, 3 S

## Q-NCE7560K
designator Q?, comment NCE7560K
footprint TO252
pins: 1 G (in), 2 D (in), 3 S (in)

## Q-NCE7580-DIP
designator Q?, comment NCE7580
footprint TO220-3L
pins: 1 G (in), 2 D (in), 3 S (in)

## Q-NCE7580D
designator Q?, comment NCE7580D
footprint TO263
pins: 1 G, 2 D, 3 S

## Q-SP08N04ST-TO252
designator Q?, comment SP08N04ST
footprint TO252
pins: 1 G (in), 2 D (in), 3 S (in)

## Q-SS8050-SOT23
designator Q?, comment SS8050
footprint SOT23-3
pins: 1 B, 2 E, 3 C

## Q-TIP122
designator Q?, comment TIP122
footprint TO220-3L
pins: 1 G (in), 2 D (in), 3 S (in)

## Q-TIP147
designator Q?, comment TIP147
Q-TIP147-TO220
footprint TO220
pins: 1 B, 2 C, 3 E

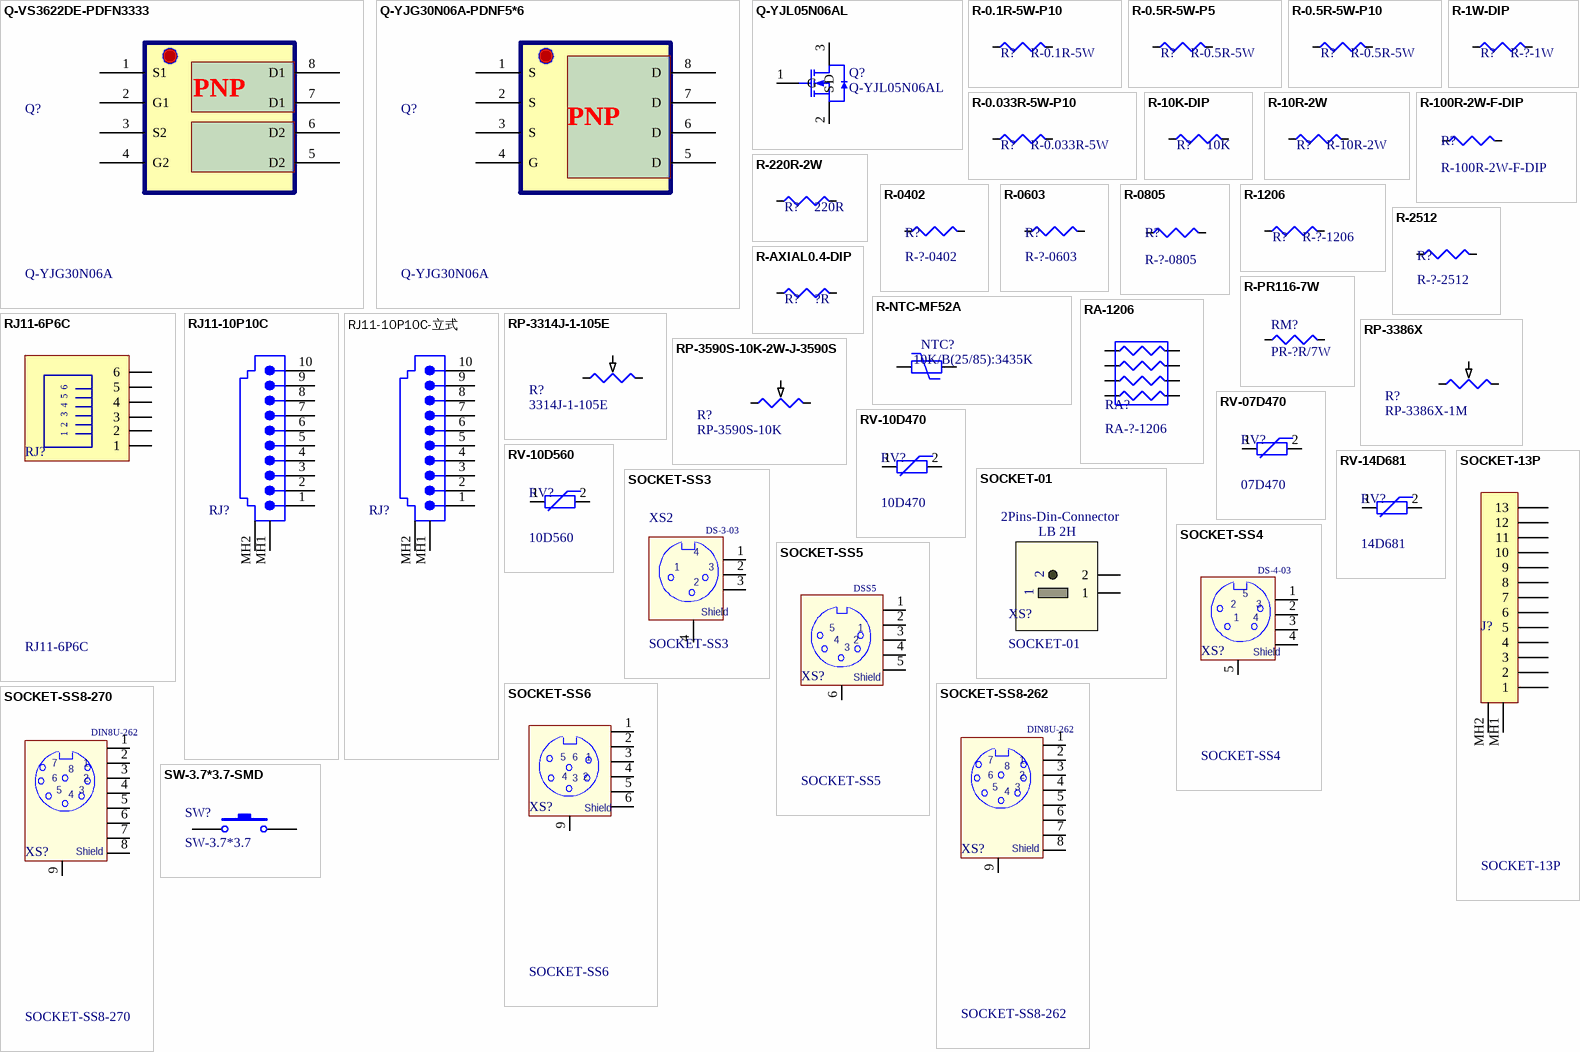
[diagram p9: symbols Q-VS3622DE-PDFN3333 to SW-3.7*3.7-SMD]

## Q-VS3622DE-PDFN3333
designator Q?, comment Q-YJG30N06A
footprint PDFN3333
pins: 1 S1, 2 G1, 3 S2, 4 G2, 5 D2, 6 D2, 7 D1, 8 D1, 9 D2, 10 D1
text: PNP

## Q-YJG30N06A-PDNF5*6
designator Q?, comment Q-YJG30N06A
footprint PDFN-5*6
pins: 1 S, 2 S, 3 S, 4 G, 5 D, 6 D, 7 D, 8 D
text: PNP

## Q-YJL05N06AL
designator Q?
SOT23
footprint SOT23-3
pins: 1 G, 2 S, 3 D

## R-0.1R-5W-P10
designator R?, comment R-0.1R-5W
footprint R-5W-P10
pins: 1, 2

## R-0.5R-5W-P5
designator R?, comment R-0.5R-5W
R-0R5-5W-J-DIP
footprint R-5W-P5
pins: 1, 2

## R-0.5R-5W-P10
designator R?, comment R-0.5R-5W
footprint R-5W-P10
pins: 1, 2

## R-0.033R-5W-P10
designator R?, comment R-0.033R-5W
footprint R-5W-P10
pins: 1, 2

## R-1W-DIP
designator R?, comment R-?-1W
footprint R-AXIAL0.8
footprint R-AXIAL0.6
pins: 1, 2

## R-10K-DIP
designator R?, comment 10K
footprint R-AXIAL0.3
pins: 1, 2

## R-10R-2W
designator R?
footprint R-AXIAL0.8
pins: 1, 2

## R-100R-2W-F-DIP
designator R?
footprint R-Axial4.5x11
pins: 1, 2

## R-220R-2W
designator R?, comment 220R
footprint R-AXIAL0.8
pins: 1, 2

## R-0402
designator R?, comment R-?-0402
footprint 0402R
pins: 1, 2

## R-0603
designator R?, comment R-?-0603
footprint 0603R
pins: 1, 2

## R-0805
designator R?, comment R-?-0805
footprint 0805R
footprint 0805R-W
pins: 1, 2

## R-1206
designator R?, comment R-?-1206
footprint 1206R
pins: 1, 2

## R-2512
designator R?, comment R-?-2512
footprint 2512R
pins: 1, 2

## R-AXIAL0.4-DIP
designator R?, comment ?R
footprint R-AXIAL0.4
pins: 1, 2

## R-NTC-MF52A
designator NTC?, comment 10K/B(25/85):3435K
P1.7
footprint R-NTC-MF52-10K
pins: 1, 2

## R-PR116-7W
designator RM?, comment PR-?R/7W
footprint 4320R
pins: 1, 2

## RA-1206
designator RA?, comment RA-?-1206
footprint RA-1206
pins: 1, 2, 3, 4, 5, 6, 7, 8

## RJ11-6P6C
designator RJ?
J-6P-Crystal
footprint RJ11
pins: 1, 2, 3, 4, 5, 6

## RJ11-10P10C
designator RJ?
footprint RJ11-10P10C (Footprint not found)
pins: 1, 2, 3, 4, 5, 6, 7, 8, 9, 10, MH1, MH2 MH1

## RJ11-10P10C-立式
designator RJ?
footprint RJ45-LS
pins: 1, 2, 3, 4, 5, 6, 7, 8, 9, 10, MH1, MH2 MH1

## RP-3314J-1-105E
designator R?, comment 3314J-1-105E
footprint 3314J-1-105E
pins: 1, 2, 3

## RP-3386X
designator R?, comment RP-3386X-1M
footprint 3386X
pins: 1, 2, 3

## RP-3590S-10K-2W-J-3590S
designator R?, comment RP-3590S-10K
footprint 3590S
pins: 1, 2, 3

## RV-07D470
designator RV?, comment 07D470
R-07D470K-DIP
footprint VDR-P4.8D07
pins: 1, 2

## RV-10D470
designator RV?, comment 10D470
R-10D470K-DIP
footprint VDR-P7.5D10
pins: 1, 2

## RV-10D560
designator RV?, comment 10D560
footprint VDR-P7.5D10
pins: 1, 2

## RV-14D681
designator RV?, comment 14D681
DIP
footprint VDR-P8.0D14
pins: 1, 2

## SOCKET-01
designator XS?
DIN-880-02
footprint SOCKET-01-2P
pins: 1, 2
text: 2Pins-Din-Connector; LB 2H

## SOCKET-13P
designator J?
J-DIN13-Y
footprint SOCKET-13P
pins: 1, 2, 3, 4, 5, 6, 7, 8, 9, 10, 11, 12, 13, MH1, MH2 MH1

## SOCKET-SS3
designator XS2
J-SOCKET3-Y; CompNAME: 三角插座; $MaterialClass: Component; CompCLASSIFICATION: ;电子元器件; Comp_Spec: J-SOCKET3-Y-DIP
footprint SOCKET-3P
pins: 1, 2, 3, 4
text: DS-3-03; Shield

## SOCKET-SS4
designator XS?
J-SOCKET4-Y
footprint SOCKET-4P
pins: 1, 2, 3, 4, 5
text: DS-4-03; Shield

## SOCKET-SS5
designator XS?
J-SOCKET5-Y
footprint SOCKET-5P-XX
pins: 1, 2, 3, 4, 5, 6
text: DSS5; Shield

## SOCKET-SS6
designator XS?
footprint SOCKET-6P
pins: 1, 2, 3, 4, 5, 6, 9
text: Shield

## SOCKET-SS8-262
designator XS?
footprint SOCKET-270-8P
pins: 1, 2, 3, 4, 5, 6, 7, 8, 9
text: DIN8U-262; Shield

## SOCKET-SS8-270
designator XS?
footprint SOCKET-270-8P
pins: 1, 2, 3, 4, 5, 6, 7, 8, 9
text: DIN8U-262; Shield

## SW-3.7*3.7-SMD
designator SW?, comment SW-3.7*3.7
footprint SW-3.7*3.7*0.35
pins: 1, 2

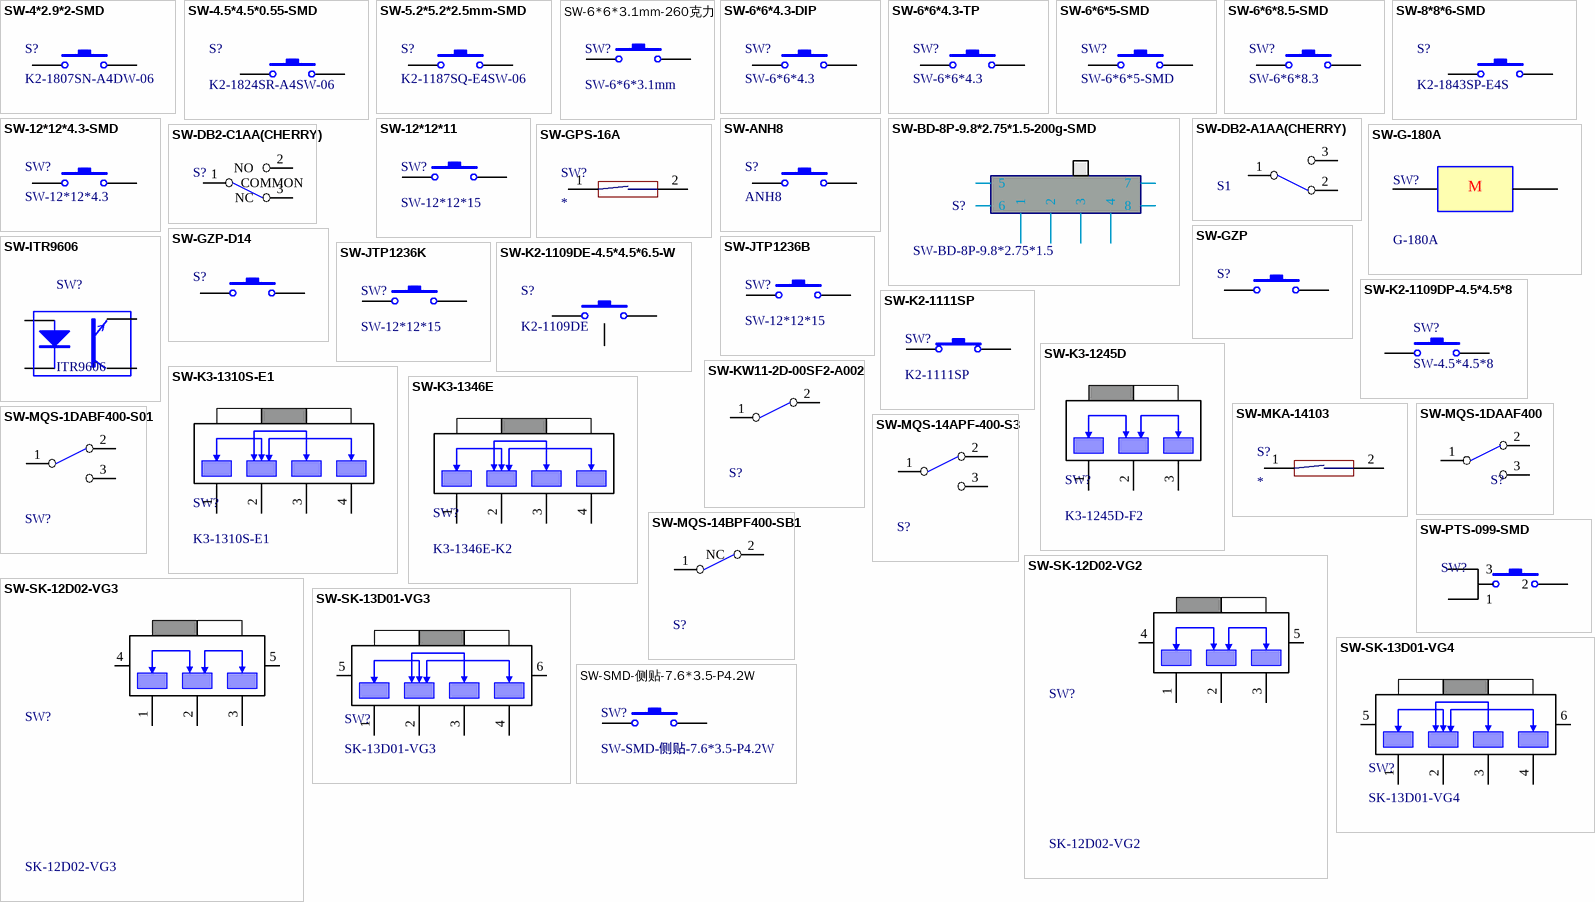
[diagram p10: symbols SW-4*2.9*2-SMD to SW-SMD-侧贴-7.6*3.5-P4.2W]

## SW-4*2.9*2-SMD
designator S?, comment K2-1807SN-A4DW-06
SW-4*2.9*2-SMD
footprint SW-4*2.9*2 (Footprint not found)
pins: 1, 2

## SW-4.5*4.5*0.55-SMD
designator S?, comment K2-1824SR-A4SW-06
SW-4.5*4.5*0.55-SMD; CompNAME: 贴片按键; $MaterialClass: Component; $MaterialID: 12132024; CompCLASSIFICATION: ;电子元器件; Comp_Spec: SW-3.7*3.7-SMD; CompID: 12132024
footprint SW-4.5*4.5*0.55
pins: 1, 2

## SW-5.2*5.2*2.5mm-SMD
designator S?, comment K2-1187SQ-E4SW-06
SW-5.2*5.2*2.5mm-SMD
footprint SW-5.2*5.2*2.5
pins: 1, 2

## SW-6*6*3.1mm-260克力
designator SW?, comment SW-6*6*3.1mm
footprint SW-6*6*3.1mm
pins: 1, 2

## SW-6*6*4.3-DIP
designator SW?, comment SW-6*6*4.3
SW-6*6*4.3mm
footprint SW-6*6*4.3-DIP
pins: 1, 2

## SW-6*6*4.3-TP
designator SW?, comment SW-6*6*4.3
SW-6*6*4.3-SMD
footprint SW-6*6*4.3-SMD
pins: 1, 2

## SW-6*6*5-SMD
designator SW?
footprint SW-6*6*5-SMD
pins: 1, 2

## SW-6*6*8.5-SMD
designator SW?, comment SW-6*6*8.3
footprint SW-6*6*4.3-SMD
pins: 1, 2

## SW-8*8*6-SMD
designator S?, comment K2-1843SP-E4S
SW-8*8*6-SMD; CompNAME: 贴片按键; $MaterialClass: Component; $MaterialID: 12132024; CompCLASSIFICATION: ;电子元器件; Comp_Spec: SW-3.7*3.7-SMD; CompID: 12132024
footprint SW-K2-1843SP-E4S
pins: 1, 2

## SW-12*12*4.3-SMD
designator SW?, comment SW-12*12*4.3
footprint SW-12*12-LS-SMD (Footprint not found)
pins: 1, 2

## SW-12*12*11
designator SW?, comment SW-12*12*15
SW-12*12*11-弯针
footprint SW-12*12*11-P5W
pins: 1, 2

## SW-ANH8
designator S?, comment ANH8
footprint AN-TM-H8-WH
pins: 1, 2

## SW-BD-8P-9.8*2.75*1.5-200g-SMD
designator S?, comment SW-BD-8P-9.8*2.75*1.5
footprint SW-BD-8P-9.8*2.75*1.5-200g-SMD
pins: 1, 2, 3, 4, 5, 6, 7, 8

## SW-DB2-A1AA(CHERRY)
designator S1  (value not drawn)
CompNAME: 微动开关(惠达); $MaterialClass: Component; $MaterialID: 12131002; CompCLASSIFICATION: ;电子元器件; Comp_Spec: SW-MQS-14APF-400-S3; CompID: 12131002
footprint SW-DB2C-A1AA (CHERRY)
pins: 1 COMMON, 2 NC, 3 NO

## SW-DB2-C1AA(CHERRY)
designator S?  (value not drawn)
footprint SW-DB2C-C1AA-F
pins: 1 COMMON, 2 NO, 3 NC

## SW-G-180A
designator SW?, comment G-180A
footprint G-180A
pins: 1, 2
text: M

## SW-GPS-16A
designator SW?
干簧管
footprint GPS-16A-干簧管
pins: 1, 2

## SW-GZP
designator S?
footprint AN-GZP-D5
pins: 1, 2

## SW-GZP-D14
designator S?
footprint AN-GZP-D14
pins: 1, 2

## SW-ITR9606
designator SW?, comment ITR9606
DIP
footprint SW-ITR9606
pins: 1, 2, 3, 4

## SW-JTP1236B
designator SW?, comment SW-12*12*15
SW-JTP1236B
footprint SW-7*7*9.5-P4.5W
pins: 1, 2

## SW-JTP1236K
designator SW?, comment SW-12*12*15
SW-JTP1236K
footprint SW-7*7*9.5-P4.5W-JTP1236K
pins: 1, 2

## SW-K2-1109DE-4.5*4.5*6.5-W
designator S?, comment K2-1109DE
SW-4.5*4.5*6.5-W; CompNAME: 贴片按键; $MaterialClass: Component; $MaterialID: 12132024; CompCLASSIFICATION: ;电子元器件; Comp_Spec: SW-3.7*3.7-SMD; CompID: 12132024
footprint SW-1109DE-4.5*4.5*6.5-W
pins: 1, 2, 3

## SW-K2-1109DP-4.5*4.5*8
designator SW?, comment SW-4.5*4.5*8
DIP
footprint SW-K2-1109DP-4.5*4.5*8
pins: 1, 2

## SW-K2-1111SP
designator SW?, comment K2-1111SP
footprint SW-P6.0-RT
pins: 1, 2

## SW-K3-1245D
designator SW?, comment K3-1245D-F2
footprint SW-K3-1245D-F2
pins: 1, 2, 3

## SW-K3-1310S-E1
designator SW?, comment K3-1310S-E1
footprint SW-K3-1310S-E1
pins: 1, 2, 3, 4

## SW-K3-1346E
designator SW?, comment K3-1346E-K2
footprint SW-K3-1346E-K2
pins: 1, 2, 3, 4

## SW-KW11-2D-00SF2-A002
designator S?
footprint SW-KW11-2D-00SF2-A002 (Footprint not found)
pins: 1 COMMON, 2 NC

## SW-MKA-14103
designator S?
干簧管
footprint MKA-14103 (Footprint not found)
pins: 1, 2

## SW-MQS-1DAAF400
designator S?  (value not drawn)
CompNAME: 微动开关(惠达); $MaterialClass: Component; $MaterialID: 12131002; CompCLASSIFICATION: ;电子元器件; Comp_Spec: SW-MQS-14APF-400-S3; CompID: 12131002
footprint SW-MQS-1DAAF400 (SW-MQS-1DAAF400-S01.A401,单马达刹车线专用)
pins: 1 COMMON, 2 NC, 3 NO

## SW-MQS-1DABF400-S01
designator SW?
footprint SW-MQS-1DAAF400
pins: 1 COMMON, 2 NC, 3 NO

## SW-MQS-14APF-400-S3
designator S?
footprint SW-MQS-14APF400
pins: 1 COMMON, 2 NC, 3 NO

## SW-MQS-14BPF400-SB1
designator S?
footprint SW-MQS-14BPF400-SB1
pins: 1 COMMON, 2 NC

## SW-PTS-099-SMD
designator SW?
footprint SW-PTS-099 -H108 (Footprint not found)
pins: 1, 2, 3

## SW-SK-12D02-VG2
designator SW?, comment SK-12D02-VG2
footprint SW-SK-12D02-VG2
pins: 1, 2, 3, 4, 5

## SW-SK-12D02-VG3
designator SW?, comment SK-12D02-VG3
footprint SW-SK-12D02-VG3
pins: 1, 2, 3, 4, 5

## SW-SK-13D01-VG3
designator SW?, comment SK-13D01-VG3
footprint SW-SK-13D01-VG3
pins: 1, 2, 3, 4, 5, 6

## SW-SK-13D01-VG4
designator SW?, comment SK-13D01-VG4
footprint SW-SK-13D01-VG4
pins: 1, 2, 3, 4, 5, 6

## SW-SMD-侧贴-7.6*3.5-P4.2W
designator SW?
footprint SW-SMD-侧贴-7.6*3.5-P4.2W (Footprint not found)
pins: 1, 2

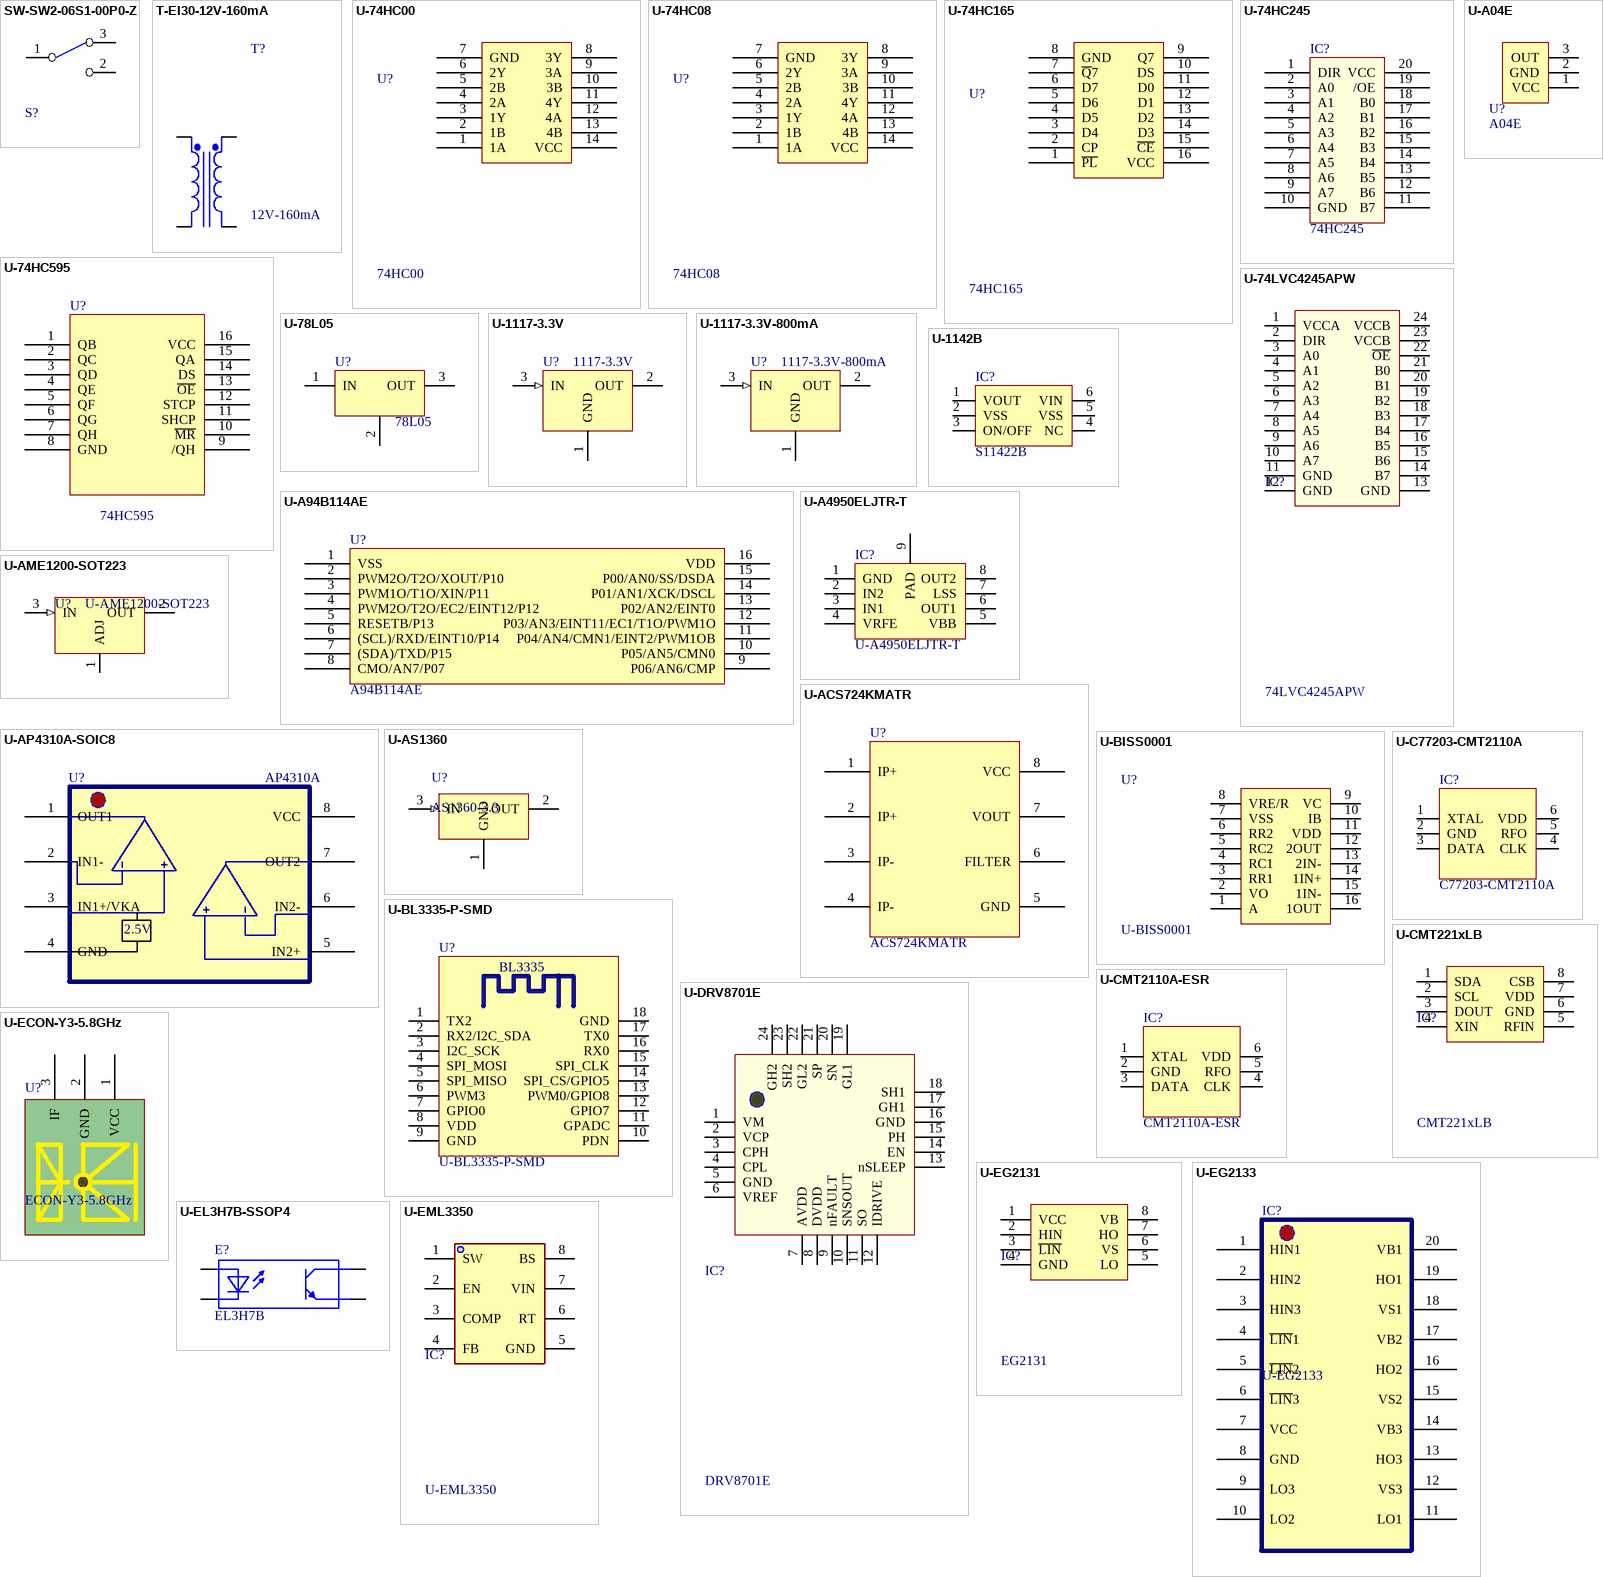
[diagram p11: symbols SW-SW2-06S1-00P0-Z to U-EML3350]

## SW-SW2-06S1-00P0-Z
designator S?
footprint SW2-06S1-00P0-Z
pins: 1 COMMON, 2 NO, 3 NC

## T-EI30-12V-160mA
designator T?, comment 12V-160mA
EI30
footprint T-EI30 (12V-160mA)
pins: 1 Pri+, 5 Pri-, 7 Sec-, 9 Sec+

## U-74HC00
designator U?, comment 74HC00
TSSOP14
footprint TSSOP14
pins: 1 1A, 2 1B, 3 1Y, 4 2A, 5 2B, 6 2Y, 7 GND, 8 3Y, 9 3A, 10 3B, 11 4Y, 12 4A, 13 4B, 14 VCC

## U-74HC08
designator U?, comment 74HC08
TSSOP14
footprint TSSOP14
pins: 1 1A, 2 1B, 3 1Y, 4 2A, 5 2B, 6 2Y, 7 GND, 8 3Y, 9 3A, 10 3B, 11 4Y, 12 4A, 13 4B, 14 VCC

## U-74HC165
designator U?, comment 74HC165
TSSOP16
footprint TSSOP16
pins: 1 ~{PL}, 2 CP, 3 D4, 4 D5, 5 D6, 6 D7, 7 ~{Q}7, 8 GND, 9 Q7, 10 DS, 11 D0, 12 D1, 13 D2, 14 D3, 15 ~{CE}, 16 VCC

## U-74HC245
designator IC?, comment 74HC245
U-74HC245-SOP20
footprint SOP20
pins: 1 DIR, 2 A0, 3 A1, 4 A2, 5 A3, 6 A4, 7 A5, 8 A6, 9 A7, 10 GND (oe), 11 B7, 12 B6, 13 B5, 14 B4, 15 B3, 16 B2, 17 B1, 18 B0, 19 /OE, 20 VCC (power)

## U-74HC595
designator U?, comment 74HC595
TSSOP16
footprint TSSOP16
pins: 1 QB, 2 QC, 3 QD, 4 QE, 5 QF, 6 QG, 7 QH, 8 GND, 9 /QH, 10 ~{MR}, 11 SHCP, 12 STCP, 13 ~{OE}, 14 DS, 15 QA, 16 VCC

## U-74LVC4245APW
designator IC?, comment 74LVC4245APW
TSSOP24
footprint TSSOP24
pins: 1 VCCA, 2 DIR, 3 A0, 4 A1, 5 A2, 6 A3, 7 A4, 8 A5, 9 A6, 10 A7, 11 GND (oe), 12 GND, 13 GND, 14 B7, 15 B6, 16 B5, 17 B4, 18 B3, 19 B2, 20 B1, 21 B0, 22 ~{OE}, 23 VCCB, 24 VCCB (power)

## U-78L05
designator U?, comment 78L05
footprint SOT89-321
pins: 1 IN, 2 GND, 3 OUT (power)

## U-1117-3.3V
designator U?, comment 1117-3.3V
U-AMS1117-3.3V-SOT223
footprint SOT223
pins: 1 GND, 2 OUT (power), 3 IN (in)

## U-1117-3.3V-800mA
designator U?, comment 1117-3.3V-800mA
SOT223
footprint SOT223
pins: 1 GND, 2 OUT (power), 3 IN (in)

## U-1142B
designator IC?, comment S11422B
footprint HSOP-6
pins: 1 VOUT, 2 VSS, 3 ON/OFF, 4 NC, 5 VSS, 6 VIN

## U-A04E
designator U?, comment A04E
footprint SIP-3
pins: 1 VCC, 2 GND, 3 OUT

## U-A94B114AE
designator U?, comment A94B114AE
SOP16
footprint SOP16
pins: 1 VSS, 2 PWM2O/T2O/XOUT/P10, 3 PWM1O/T1O/XIN/P11, 4 PWM2O/T2O/EC2/EINT12/P12, 5 RESETB/P13, 6 (SCL)/RXD/EINT10/P14, 7 (SDA)/TXD/P15, 8 CMO/AN7/P07, 9 P06/AN6/CMP, 10 P05/AN5/CMN0, 11 P04/AN4/CMN1/EINT2/PWM1OB, 12 P03/AN3/EINT11/EC1/T1O/PWM1O, 13 P02/AN2/EINT0, 14 P01/AN1/XCK/DSCL, 15 P00/AN0/SS/DSDA, 16 VDD

## U-A4950ELJTR-T
designator IC?
SOP8
footprint SOP8(散热焊盘)
pins: 1 GND, 2 IN2, 3 IN1, 4 VRFE, 5 VBB, 6 OUT1, 7 LSS, 8 OUT2, 9 PAD

## U-ACS724KMATR
designator U?, comment ACS724KMATR
SOP8
footprint SOP8
pins: 1 IP+, 2 IP+, 3 IP-, 4 IP-, 5 GND, 6 FILTER, 7 VOUT, 8 VCC

## U-AME1200-SOT223
designator U?
SOT223
footprint SOT223
pins: 1 ADJ, 2 OUT (power), 3 IN (in)

## U-AP4310A-SOIC8
designator U?, comment AP4310A
SOP8
footprint SOP8
pins: 1 OUT1, 2 IN1-, 3 IN1+/VKA, 4 GND, 5 IN2+, 6 IN2-, 7 OUT2, 8 VCC
text: 2.5V

## U-AS1360
designator U?, comment AS1360-3.3
U-AS1360-3.3-SOT23
footprint SOT23-3
pins: 1 GND, 2 OUT (power), 3 IN (in)

## U-BISS0001
designator U?
SOP16
footprint SOP16
pins: 1 A (hiz), 2 VO (hiz), 3 RR1 (hiz), 4 RC1 (hiz), 5 RC2 (hiz), 6 RR2 (hiz), 7 VSS (hiz), 8 VRE/R, 9 VC (hiz), 10 IB (hiz), 11 VDD (hiz), 12 2OUT (hiz), 13 2IN- (hiz), 14 1IN+ (hiz), 15 1IN- (hiz), 16 1OUT

## U-BL3335-P-SMD
designator U?
footprint U-BL3335-P-SMD
pins: 1 TX2, 2 RX2/I2C_SDA, 3 I2C_SCK, 4 SPI_MOSI, 5 SPI_MISO, 6 PWM3, 7 GPIO0, 8 VDD, 9 GND, 10 PDN, 11 GPADC, 12 GPIO7, 13 PWM0/GPIO8, 14 SPI_CS/GPIO5, 15 SPI_CLK, 16 RX0, 17 TX0, 18 GND
text: BL3335

## U-C77203-CMT2110A
designator IC?, comment C77203-CMT2110A
SOT23-6
footprint SOT23-6
pins: 1 XTAL, 2 GND, 3 DATA, 4 CLK, 5 RFO, 6 VDD

## U-CMT221xLB
designator IC?, comment CMT221xLB
SOP8
footprint SOP8
pins: 1 SDA, 2 SCL, 3 DOUT, 4 XIN, 5 RFIN, 6 GND, 7 VDD, 8 CSB

## U-CMT2110A-ESR
designator IC?, comment CMT2110A-ESR
SOT23-6
footprint SOT23-6
pins: 1 XTAL, 2 GND, 3 DATA, 4 CLK, 5 RFO, 6 VDD

## U-DRV8701E
designator IC?, comment DRV8701E
VQFN24
footprint VQFN24
pins: 1 VM, 2 VCP, 3 CPH, 4 CPL, 5 GND, 6 VREF, 7 AVDD, 8 DVDD, 9 nFAULT, 10 SNSOUT, 11 SO (oe), 12 IDRIVE, 13 nSLEEP, 14 EN, 15 PH, 16 GND, 17 GH1, 18 SH1, 19 GL1, 20 SN, 21 SP, 22 GL2, 23 SH2, 24 GH2 (power)

## U-ECON-Y3-5.8GHz
designator U?, comment ECON-Y3-5.8GHz
footprint U-ECON-Y3-5GHz (Footprint not found)
pins: 1 VCC, 2 GND, 3 IF

## U-EG2131
designator IC?, comment EG2131
SOP8
footprint SOP8
pins: 1 VCC, 2 HIN, 3 ~{LIN}, 4 GND, 5 LO, 6 VS, 7 HO, 8 VB